# Altium integrated library AD Microcontroller ARM.IntLib: 47 symbols (part 2 of 3)
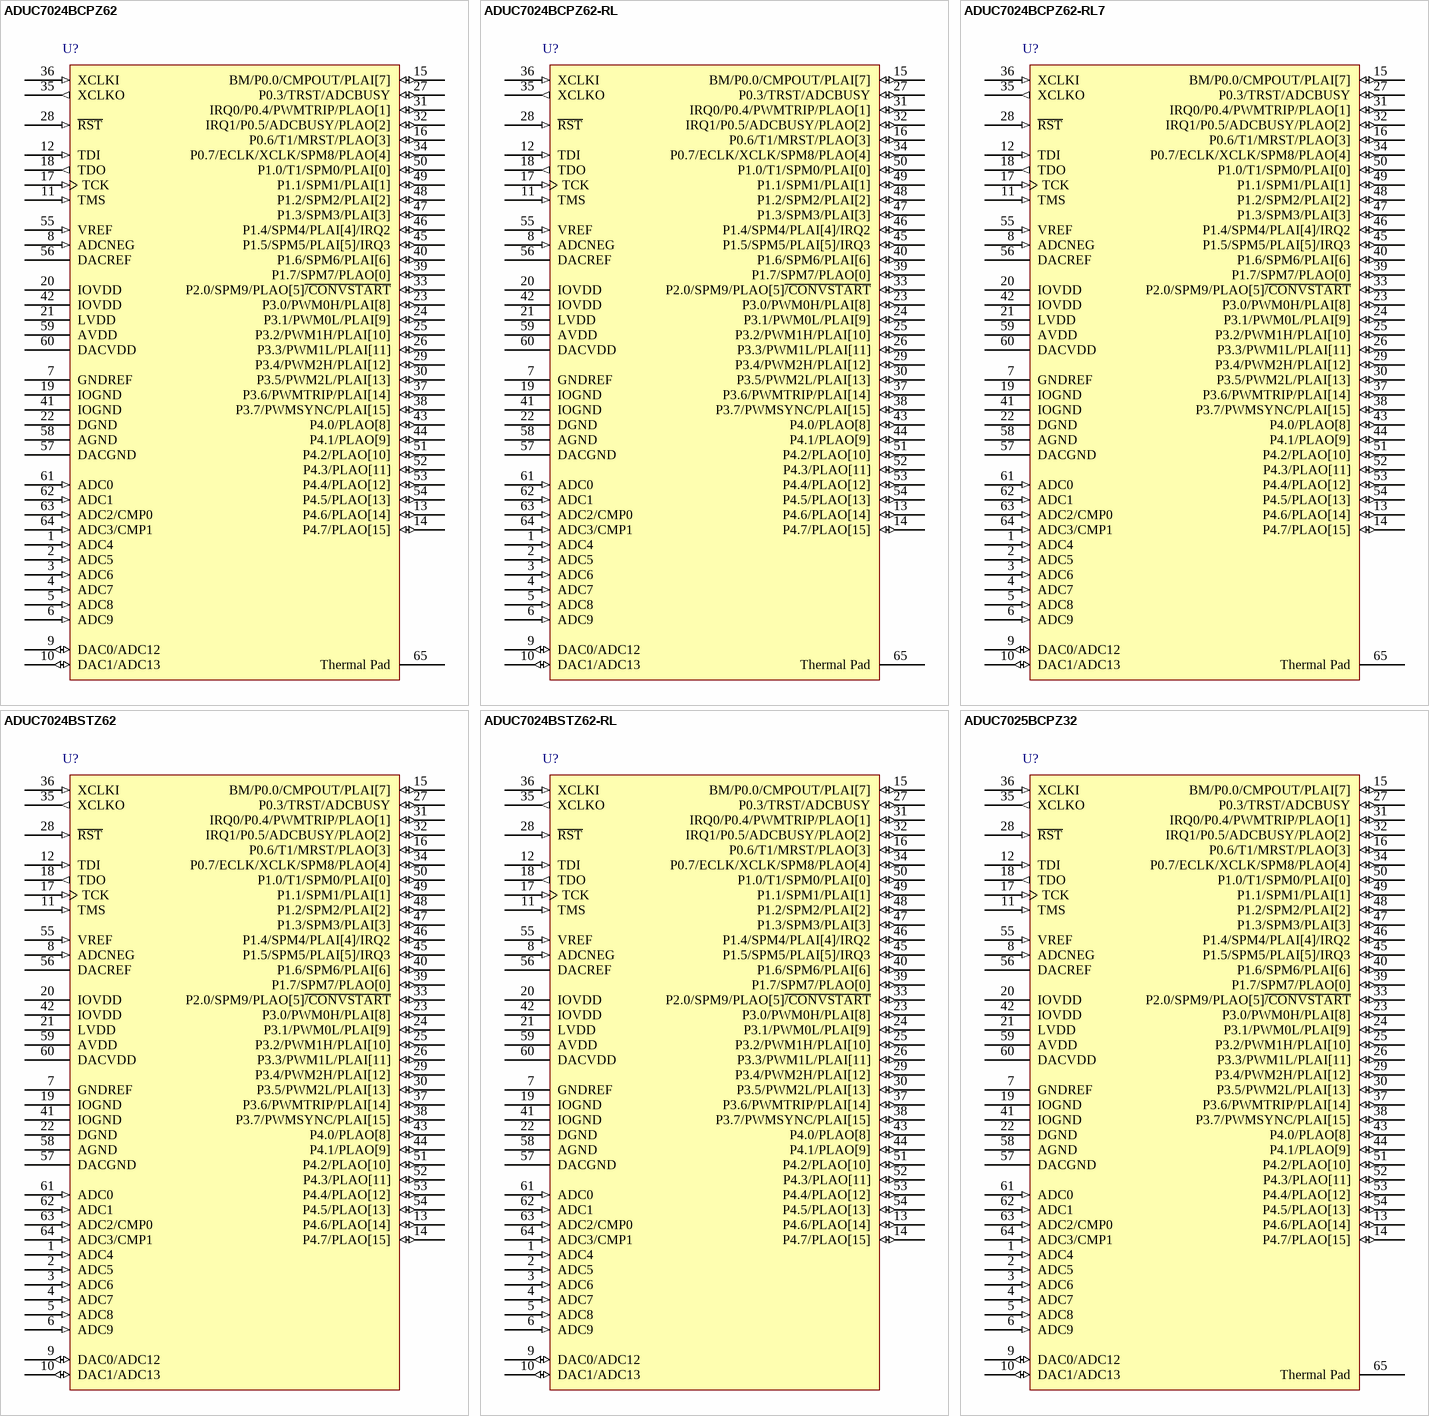
[diagram p8: symbols ADUC7024BCPZ62 to ADUC7025BCPZ32]

## ADUC7024BCPZ62-RL
designator U?
12-Bit Data Acquisition SOC, 40 MIPS ARM7 Flash MCU, 10 Channel ADC, 2 Channel DAC, 30 I/Os, 64-Pin LFCSP_VQ, Pb-Free; Published: 30-Mar-2007; DatasheetVersion: RevA, Jan-2006; PackageVersion: Apr-2004; PackageReference: CP-64-1; Publisher: Altium Limited; PackageDescription: 64-Pin Lead Frame Chip Scale Package [LFCSP] Very Thin Quad; Code_JEDEC: MO-220-VMMD; ComponentLink1Description: Manufacturer Link; ComponentLink1URL: http://www.analog.com/en/prod/0,,762_0_ADUC7024%2C00.html; ComponentLink2Description: Datasheet; ComponentLink2URL: http://www.analog.com/UploadedFiles/Data_Sheets/ADUC7019_7020_7021_7022_7024_7025_7026_7027.pdf; ComponentLink3Description: Packaging Specification; ComponentLink3URL: http://www.analog.com/UploadedFiles/Packages/40887351787287CP_64_1.pdf
footprint CP-64-1_N (QFN, 64-Leads, Body 9x9mm, Pitch 0.5mm, IPC Medium Density)
footprint CP-64-1_L (QFN, 64-Leads, Body 9x9mm, Pitch 0.5mm, IPC High Density)
footprint CP-64-1_M (QFN, 64-Leads, Body 9x9mm, Pitch 0.5mm, IPC Low Density)
pins: 1 ADC4 (in), 2 ADC5 (in), 3 ADC6 (in), 4 ADC7 (in), 5 ADC8 (in), 6 ADC9 (in), 7 GNDREF (power), 8 ADCNEG (in), 9 DAC0/ADC12 (io), 10 DAC1/ADC13 (io), 11 TMS (in), 12 TDI (in), 13 P4.6/PLAO[14] (io), 14 P4.7/PLAO[15] (io), 15 BM/P0.0/CMPOUT/PLAI[7] (io), 16 P0.6/T1/MRST/PLAO[3] (io), 17 TCK (in), 18 TDO (out), 19 IOGND (power), 20 IOVDD (power), 21 LVDD (power), 22 DGND (power), 23 P3.0/PWM0H/PLAI[8] (io), 24 P3.1/PWM0L/PLAI[9] (io), 25 P3.2/PWM1H/PLAI[10] (io), 26 P3.3/PWM1L/PLAI[11] (io), 27 P0.3/TRST/ADCBUSY (io), 28 ~{RST} (in), 29 P3.4/PWM2H/PLAI[12] (io), 30 P3.5/PWM2L/PLAI[13] (io), 31 IRQ0/P0.4/PWMTRIP/PLAO[1] (io), 32 IRQ1/P0.5/ADCBUSY/PLAO[2] (io), 33 P2.0/SPM9/PLAO[5]~{/CONVSTART} (io), 34 P0.7/ECLK/XCLK/SPM8/PLAO[4] (io), 35 XCLKO (out), 36 XCLKI (in), 37 P3.6/PWMTRIP/PLAI[14] (io), 38 P3.7/PWMSYNC/PLAI[15] (io), 39 P1.7/SPM7/PLAO[0] (io), 40 P1.6/SPM6/PLAI[6] (io), 41 IOGND (power), 42 IOVDD (power), 43 P4.0/PLAO[8] (io), 44 P4.1/PLAO[9] (io), 45 P1.5/SPM5/PLAI[5]/IRQ3 (io), 46 P1.4/SPM4/PLAI[4]/IRQ2 (io), 47 P1.3/SPM3/PLAI[3] (io), 48 P1.2/SPM2/PLAI[2] (io), 49 P1.1/SPM1/PLAI[1] (io), 50 P1.0/T1/SPM0/PLAI[0] (io), 51 P4.2/PLAO[10] (io), 52 P4.3/PLAO[11] (io), 53 P4.4/PLAO[12] (io), 54 P4.5/PLAO[13] (io), 55 VREF (in), 56 DACREF (power), 57 DACGND (power), 58 AGND (power), 59 AVDD (power), 60 DACVDD (power), 61 ADC0 (in), 62 ADC1 (in), 63 ADC2/CMP0 (in), 64 ADC3/CMP1 (in), 65 Thermal Pad

## ADUC7024BCPZ62-RL7
designator U?
12-Bit Data Acquisition SOC, 40 MIPS ARM7 Flash MCU, 10 Channel ADC, 2 Channel DAC, 30 I/Os, 64-Pin LFCSP_VQ, Pb-Free; Published: 30-Mar-2007; DatasheetVersion: RevA, Jan-2006; PackageVersion: Apr-2004; PackageReference: CP-64-1; Publisher: Altium Limited; PackageDescription: 64-Pin Lead Frame Chip Scale Package [LFCSP] Very Thin Quad; Code_JEDEC: MO-220-VMMD; ComponentLink1Description: Manufacturer Link; ComponentLink1URL: http://www.analog.com/en/prod/0,,762_0_ADUC7024%2C00.html; ComponentLink2Description: Datasheet; ComponentLink2URL: http://www.analog.com/UploadedFiles/Data_Sheets/ADUC7019_7020_7021_7022_7024_7025_7026_7027.pdf; ComponentLink3Description: Packaging Specification; ComponentLink3URL: http://www.analog.com/UploadedFiles/Packages/40887351787287CP_64_1.pdf
footprint CP-64-1_N (QFN, 64-Leads, Body 9x9mm, Pitch 0.5mm, IPC Medium Density)
footprint CP-64-1_L (QFN, 64-Leads, Body 9x9mm, Pitch 0.5mm, IPC High Density)
footprint CP-64-1_M (QFN, 64-Leads, Body 9x9mm, Pitch 0.5mm, IPC Low Density)
pins: 1 ADC4 (in), 2 ADC5 (in), 3 ADC6 (in), 4 ADC7 (in), 5 ADC8 (in), 6 ADC9 (in), 7 GNDREF (power), 8 ADCNEG (in), 9 DAC0/ADC12 (io), 10 DAC1/ADC13 (io), 11 TMS (in), 12 TDI (in), 13 P4.6/PLAO[14] (io), 14 P4.7/PLAO[15] (io), 15 BM/P0.0/CMPOUT/PLAI[7] (io), 16 P0.6/T1/MRST/PLAO[3] (io), 17 TCK (in), 18 TDO (out), 19 IOGND (power), 20 IOVDD (power), 21 LVDD (power), 22 DGND (power), 23 P3.0/PWM0H/PLAI[8] (io), 24 P3.1/PWM0L/PLAI[9] (io), 25 P3.2/PWM1H/PLAI[10] (io), 26 P3.3/PWM1L/PLAI[11] (io), 27 P0.3/TRST/ADCBUSY (io), 28 ~{RST} (in), 29 P3.4/PWM2H/PLAI[12] (io), 30 P3.5/PWM2L/PLAI[13] (io), 31 IRQ0/P0.4/PWMTRIP/PLAO[1] (io), 32 IRQ1/P0.5/ADCBUSY/PLAO[2] (io), 33 P2.0/SPM9/PLAO[5]~{/CONVSTART} (io), 34 P0.7/ECLK/XCLK/SPM8/PLAO[4] (io), 35 XCLKO (out), 36 XCLKI (in), 37 P3.6/PWMTRIP/PLAI[14] (io), 38 P3.7/PWMSYNC/PLAI[15] (io), 39 P1.7/SPM7/PLAO[0] (io), 40 P1.6/SPM6/PLAI[6] (io), 41 IOGND (power), 42 IOVDD (power), 43 P4.0/PLAO[8] (io), 44 P4.1/PLAO[9] (io), 45 P1.5/SPM5/PLAI[5]/IRQ3 (io), 46 P1.4/SPM4/PLAI[4]/IRQ2 (io), 47 P1.3/SPM3/PLAI[3] (io), 48 P1.2/SPM2/PLAI[2] (io), 49 P1.1/SPM1/PLAI[1] (io), 50 P1.0/T1/SPM0/PLAI[0] (io), 51 P4.2/PLAO[10] (io), 52 P4.3/PLAO[11] (io), 53 P4.4/PLAO[12] (io), 54 P4.5/PLAO[13] (io), 55 VREF (in), 56 DACREF (power), 57 DACGND (power), 58 AGND (power), 59 AVDD (power), 60 DACVDD (power), 61 ADC0 (in), 62 ADC1 (in), 63 ADC2/CMP0 (in), 64 ADC3/CMP1 (in), 65 Thermal Pad

## ADUC7024BSTZ62
designator U?
12-Bit Data Acquisition SOC, 40 MIPS ARM7 Flash MCU, 10 Channel ADC, 2 Channel DAC, 30 I/Os, 64-Pin LQFP, Pb-Free; Published: 30-Mar-2007; DatasheetVersion: RevA, Jan-2006; PackageVersion: May-2006; PackageReference: ST-64-2; Publisher: Altium Limited; PackageDescription: 64-Pin Low Profile Quad Flat Pack [LQFP]; Code_JEDEC: MS-026-BCD; ComponentLink1Description: Manufacturer Link; ComponentLink1URL: http://www.analog.com/en/prod/0,,762_0_ADUC7024%2C00.html; ComponentLink2Description: Datasheet; ComponentLink2URL: http://www.analog.com/UploadedFiles/Data_Sheets/ADUC7019_7020_7021_7022_7024_7025_7026_7027.pdf; ComponentLink3Description: Packaging Specification; ComponentLink3URL: http://www.analog.com/UploadedFiles/Packages/120493418ST_64_2.pdf
footprint ST-64-2_N (Thin QFP, 64-Leads, Body 10x10mm, Pitch 0.5mm, IPC Medium Density)
footprint ST-64-2_L (Thin QFP, 64-Leads, Body 10x10mm, Pitch 0.5mm, IPC High Density)
footprint ST-64-2_M (Thin QFP, 64-Leads, Body 10x10mm, Pitch 0.5mm, IPC Low Density)
3D model ADUC7024-ST-64-2 (64-Pin Low Profile Quad Flat Pack [LQFP])
pins: 1 ADC4 (in), 2 ADC5 (in), 3 ADC6 (in), 4 ADC7 (in), 5 ADC8 (in), 6 ADC9 (in), 7 GNDREF (power), 8 ADCNEG (in), 9 DAC0/ADC12 (io), 10 DAC1/ADC13 (io), 11 TMS (in), 12 TDI (in), 13 P4.6/PLAO[14] (io), 14 P4.7/PLAO[15] (io), 15 BM/P0.0/CMPOUT/PLAI[7] (io), 16 P0.6/T1/MRST/PLAO[3] (io), 17 TCK (in), 18 TDO (out), 19 IOGND (power), 20 IOVDD (power), 21 LVDD (power), 22 DGND (power), 23 P3.0/PWM0H/PLAI[8] (io), 24 P3.1/PWM0L/PLAI[9] (io), 25 P3.2/PWM1H/PLAI[10] (io), 26 P3.3/PWM1L/PLAI[11] (io), 27 P0.3/TRST/ADCBUSY (io), 28 ~{RST} (in), 29 P3.4/PWM2H/PLAI[12] (io), 30 P3.5/PWM2L/PLAI[13] (io), 31 IRQ0/P0.4/PWMTRIP/PLAO[1] (io), 32 IRQ1/P0.5/ADCBUSY/PLAO[2] (io), 33 P2.0/SPM9/PLAO[5]~{/CONVSTART} (io), 34 P0.7/ECLK/XCLK/SPM8/PLAO[4] (io), 35 XCLKO (out), 36 XCLKI (in), 37 P3.6/PWMTRIP/PLAI[14] (io), 38 P3.7/PWMSYNC/PLAI[15] (io), 39 P1.7/SPM7/PLAO[0] (io), 40 P1.6/SPM6/PLAI[6] (io), 41 IOGND (power), 42 IOVDD (power), 43 P4.0/PLAO[8] (io), 44 P4.1/PLAO[9] (io), 45 P1.5/SPM5/PLAI[5]/IRQ3 (io), 46 P1.4/SPM4/PLAI[4]/IRQ2 (io), 47 P1.3/SPM3/PLAI[3] (io), 48 P1.2/SPM2/PLAI[2] (io), 49 P1.1/SPM1/PLAI[1] (io), 50 P1.0/T1/SPM0/PLAI[0] (io), 51 P4.2/PLAO[10] (io), 52 P4.3/PLAO[11] (io), 53 P4.4/PLAO[12] (io), 54 P4.5/PLAO[13] (io), 55 VREF (in), 56 DACREF (power), 57 DACGND (power), 58 AGND (power), 59 AVDD (power), 60 DACVDD (power), 61 ADC0 (in), 62 ADC1 (in), 63 ADC2/CMP0 (in), 64 ADC3/CMP1 (in)

## ADUC7024BSTZ62-RL
designator U?
12-Bit Data Acquisition SOC, 40 MIPS ARM7 Flash MCU, 10 Channel ADC, 2 Channel DAC, 30 I/Os, 64-Pin LQFP, Pb-Free; Published: 30-Mar-2007; DatasheetVersion: RevA, Jan-2006; PackageVersion: May-2006; PackageReference: ST-64-2; Publisher: Altium Limited; PackageDescription: 64-Pin Low Profile Quad Flat Pack [LQFP]; Code_JEDEC: MS-026-BCD; ComponentLink1Description: Manufacturer Link; ComponentLink1URL: http://www.analog.com/en/prod/0,,762_0_ADUC7024%2C00.html; ComponentLink2Description: Datasheet; ComponentLink2URL: http://www.analog.com/UploadedFiles/Data_Sheets/ADUC7019_7020_7021_7022_7024_7025_7026_7027.pdf; ComponentLink3Description: Packaging Specification; ComponentLink3URL: http://www.analog.com/UploadedFiles/Packages/120493418ST_64_2.pdf
footprint ST-64-2_N (Thin QFP, 64-Leads, Body 10x10mm, Pitch 0.5mm, IPC Medium Density)
footprint ST-64-2_L (Thin QFP, 64-Leads, Body 10x10mm, Pitch 0.5mm, IPC High Density)
footprint ST-64-2_M (Thin QFP, 64-Leads, Body 10x10mm, Pitch 0.5mm, IPC Low Density)
3D model ADUC7024-ST-64-2 (64-Pin Low Profile Quad Flat Pack [LQFP])
pins: 1 ADC4 (in), 2 ADC5 (in), 3 ADC6 (in), 4 ADC7 (in), 5 ADC8 (in), 6 ADC9 (in), 7 GNDREF (power), 8 ADCNEG (in), 9 DAC0/ADC12 (io), 10 DAC1/ADC13 (io), 11 TMS (in), 12 TDI (in), 13 P4.6/PLAO[14] (io), 14 P4.7/PLAO[15] (io), 15 BM/P0.0/CMPOUT/PLAI[7] (io), 16 P0.6/T1/MRST/PLAO[3] (io), 17 TCK (in), 18 TDO (out), 19 IOGND (power), 20 IOVDD (power), 21 LVDD (power), 22 DGND (power), 23 P3.0/PWM0H/PLAI[8] (io), 24 P3.1/PWM0L/PLAI[9] (io), 25 P3.2/PWM1H/PLAI[10] (io), 26 P3.3/PWM1L/PLAI[11] (io), 27 P0.3/TRST/ADCBUSY (io), 28 ~{RST} (in), 29 P3.4/PWM2H/PLAI[12] (io), 30 P3.5/PWM2L/PLAI[13] (io), 31 IRQ0/P0.4/PWMTRIP/PLAO[1] (io), 32 IRQ1/P0.5/ADCBUSY/PLAO[2] (io), 33 P2.0/SPM9/PLAO[5]~{/CONVSTART} (io), 34 P0.7/ECLK/XCLK/SPM8/PLAO[4] (io), 35 XCLKO (out), 36 XCLKI (in), 37 P3.6/PWMTRIP/PLAI[14] (io), 38 P3.7/PWMSYNC/PLAI[15] (io), 39 P1.7/SPM7/PLAO[0] (io), 40 P1.6/SPM6/PLAI[6] (io), 41 IOGND (power), 42 IOVDD (power), 43 P4.0/PLAO[8] (io), 44 P4.1/PLAO[9] (io), 45 P1.5/SPM5/PLAI[5]/IRQ3 (io), 46 P1.4/SPM4/PLAI[4]/IRQ2 (io), 47 P1.3/SPM3/PLAI[3] (io), 48 P1.2/SPM2/PLAI[2] (io), 49 P1.1/SPM1/PLAI[1] (io), 50 P1.0/T1/SPM0/PLAI[0] (io), 51 P4.2/PLAO[10] (io), 52 P4.3/PLAO[11] (io), 53 P4.4/PLAO[12] (io), 54 P4.5/PLAO[13] (io), 55 VREF (in), 56 DACREF (power), 57 DACGND (power), 58 AGND (power), 59 AVDD (power), 60 DACVDD (power), 61 ADC0 (in), 62 ADC1 (in), 63 ADC2/CMP0 (in), 64 ADC3/CMP1 (in)

## ADUC7025BCPZ32
designator U?
12-Bit Data Acquisition SOC, 40 MIPS ARM7 Flash MCU, 12 Channel ADC, 30 I/Os, 64-Pin LFCSP_VQ, Pb-Free; Published: 30-Mar-2007; DatasheetVersion: RevA, Jan-2006; PackageVersion: Apr-2004; PackageReference: CP-64-1; Publisher: Altium Limited; PackageDescription: 64-Pin Lead Frame Chip Scale Package [LFCSP] Very Thin Quad; Code_JEDEC: MO-220-VMMD; ComponentLink1Description: Manufacturer Link; ComponentLink1URL: http://www.analog.com/en/prod/0,,762_0_ADUC7025%2C00.html; ComponentLink2Description: Datasheet; ComponentLink2URL: http://www.analog.com/UploadedFiles/Data_Sheets/ADUC7019_7020_7021_7022_7024_7025_7026_7027.pdf; ComponentLink3Description: Packaging Specification; ComponentLink3URL: http://www.analog.com/UploadedFiles/Packages/40887351787287CP_64_1.pdf
footprint CP-64-1_N (QFN, 64-Leads, Body 9x9mm, Pitch 0.5mm, IPC Medium Density)
footprint CP-64-1_L (QFN, 64-Leads, Body 9x9mm, Pitch 0.5mm, IPC High Density)
footprint CP-64-1_M (QFN, 64-Leads, Body 9x9mm, Pitch 0.5mm, IPC Low Density)
pins: 1 ADC4 (in), 2 ADC5 (in), 3 ADC6 (in), 4 ADC7 (in), 5 ADC8 (in), 6 ADC9 (in), 7 GNDREF (power), 8 ADCNEG (in), 9 DAC0/ADC12 (io), 10 DAC1/ADC13 (io), 11 TMS (in), 12 TDI (in), 13 P4.6/PLAO[14] (io), 14 P4.7/PLAO[15] (io), 15 BM/P0.0/CMPOUT/PLAI[7] (io), 16 P0.6/T1/MRST/PLAO[3] (io), 17 TCK (in), 18 TDO (out), 19 IOGND (power), 20 IOVDD (power), 21 LVDD (power), 22 DGND (power), 23 P3.0/PWM0H/PLAI[8] (io), 24 P3.1/PWM0L/PLAI[9] (io), 25 P3.2/PWM1H/PLAI[10] (io), 26 P3.3/PWM1L/PLAI[11] (io), 27 P0.3/TRST/ADCBUSY (io), 28 ~{RST} (in), 29 P3.4/PWM2H/PLAI[12] (io), 30 P3.5/PWM2L/PLAI[13] (io), 31 IRQ0/P0.4/PWMTRIP/PLAO[1] (io), 32 IRQ1/P0.5/ADCBUSY/PLAO[2] (io), 33 P2.0/SPM9/PLAO[5]~{/CONVSTART} (io), 34 P0.7/ECLK/XCLK/SPM8/PLAO[4] (io), 35 XCLKO (out), 36 XCLKI (in), 37 P3.6/PWMTRIP/PLAI[14] (io), 38 P3.7/PWMSYNC/PLAI[15] (io), 39 P1.7/SPM7/PLAO[0] (io), 40 P1.6/SPM6/PLAI[6] (io), 41 IOGND (power), 42 IOVDD (power), 43 P4.0/PLAO[8] (io), 44 P4.1/PLAO[9] (io), 45 P1.5/SPM5/PLAI[5]/IRQ3 (io), 46 P1.4/SPM4/PLAI[4]/IRQ2 (io), 47 P1.3/SPM3/PLAI[3] (io), 48 P1.2/SPM2/PLAI[2] (io), 49 P1.1/SPM1/PLAI[1] (io), 50 P1.0/T1/SPM0/PLAI[0] (io), 51 P4.2/PLAO[10] (io), 52 P4.3/PLAO[11] (io), 53 P4.4/PLAO[12] (io), 54 P4.5/PLAO[13] (io), 55 VREF (in), 56 DACREF (power), 57 DACGND (power), 58 AGND (power), 59 AVDD (power), 60 DACVDD (power), 61 ADC0 (in), 62 ADC1 (in), 63 ADC2/CMP0 (in), 64 ADC3/CMP1 (in), 65 Thermal Pad

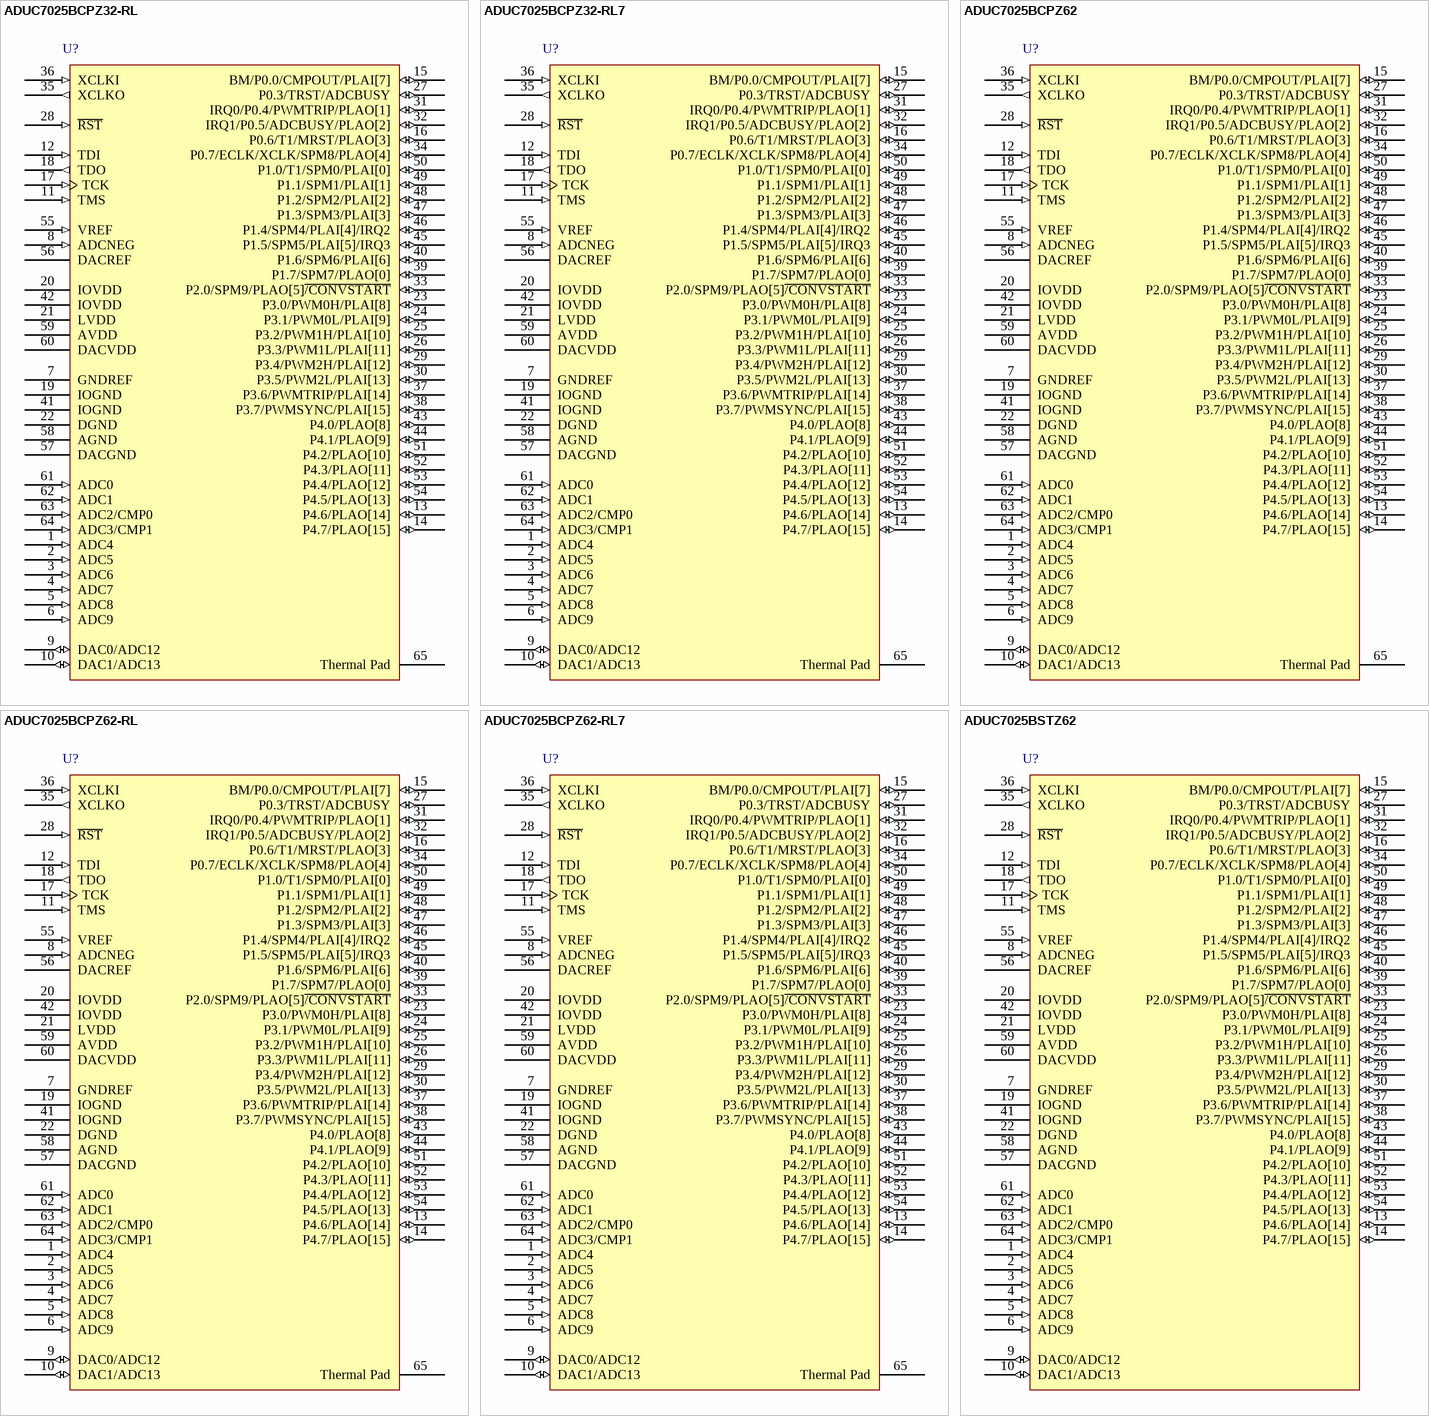
[diagram p4: symbols ADUC7025BCPZ32-RL to ADUC7025BSTZ62]

## ADUC7025BCPZ32-RL
designator U?
12-Bit Data Acquisition SOC, 40 MIPS ARM7 Flash MCU, 12 Channel ADC, 30 I/Os, 64-Pin LFCSP_VQ, Pb-Free; Published: 30-Mar-2007; DatasheetVersion: RevA, Jan-2006; PackageVersion: Apr-2004; PackageReference: CP-64-1; Publisher: Altium Limited; PackageDescription: 64-Pin Lead Frame Chip Scale Package [LFCSP] Very Thin Quad; Code_JEDEC: MO-220-VMMD; ComponentLink1Description: Manufacturer Link; ComponentLink1URL: http://www.analog.com/en/prod/0,,762_0_ADUC7025%2C00.html; ComponentLink2Description: Datasheet; ComponentLink2URL: http://www.analog.com/UploadedFiles/Data_Sheets/ADUC7019_7020_7021_7022_7024_7025_7026_7027.pdf; ComponentLink3Description: Packaging Specification; ComponentLink3URL: http://www.analog.com/UploadedFiles/Packages/40887351787287CP_64_1.pdf
footprint CP-64-1_N (QFN, 64-Leads, Body 9x9mm, Pitch 0.5mm, IPC Medium Density)
footprint CP-64-1_L (QFN, 64-Leads, Body 9x9mm, Pitch 0.5mm, IPC High Density)
footprint CP-64-1_M (QFN, 64-Leads, Body 9x9mm, Pitch 0.5mm, IPC Low Density)
pins: 1 ADC4 (in), 2 ADC5 (in), 3 ADC6 (in), 4 ADC7 (in), 5 ADC8 (in), 6 ADC9 (in), 7 GNDREF (power), 8 ADCNEG (in), 9 DAC0/ADC12 (io), 10 DAC1/ADC13 (io), 11 TMS (in), 12 TDI (in), 13 P4.6/PLAO[14] (io), 14 P4.7/PLAO[15] (io), 15 BM/P0.0/CMPOUT/PLAI[7] (io), 16 P0.6/T1/MRST/PLAO[3] (io), 17 TCK (in), 18 TDO (out), 19 IOGND (power), 20 IOVDD (power), 21 LVDD (power), 22 DGND (power), 23 P3.0/PWM0H/PLAI[8] (io), 24 P3.1/PWM0L/PLAI[9] (io), 25 P3.2/PWM1H/PLAI[10] (io), 26 P3.3/PWM1L/PLAI[11] (io), 27 P0.3/TRST/ADCBUSY (io), 28 ~{RST} (in), 29 P3.4/PWM2H/PLAI[12] (io), 30 P3.5/PWM2L/PLAI[13] (io), 31 IRQ0/P0.4/PWMTRIP/PLAO[1] (io), 32 IRQ1/P0.5/ADCBUSY/PLAO[2] (io), 33 P2.0/SPM9/PLAO[5]~{/CONVSTART} (io), 34 P0.7/ECLK/XCLK/SPM8/PLAO[4] (io), 35 XCLKO (out), 36 XCLKI (in), 37 P3.6/PWMTRIP/PLAI[14] (io), 38 P3.7/PWMSYNC/PLAI[15] (io), 39 P1.7/SPM7/PLAO[0] (io), 40 P1.6/SPM6/PLAI[6] (io), 41 IOGND (power), 42 IOVDD (power), 43 P4.0/PLAO[8] (io), 44 P4.1/PLAO[9] (io), 45 P1.5/SPM5/PLAI[5]/IRQ3 (io), 46 P1.4/SPM4/PLAI[4]/IRQ2 (io), 47 P1.3/SPM3/PLAI[3] (io), 48 P1.2/SPM2/PLAI[2] (io), 49 P1.1/SPM1/PLAI[1] (io), 50 P1.0/T1/SPM0/PLAI[0] (io), 51 P4.2/PLAO[10] (io), 52 P4.3/PLAO[11] (io), 53 P4.4/PLAO[12] (io), 54 P4.5/PLAO[13] (io), 55 VREF (in), 56 DACREF (power), 57 DACGND (power), 58 AGND (power), 59 AVDD (power), 60 DACVDD (power), 61 ADC0 (in), 62 ADC1 (in), 63 ADC2/CMP0 (in), 64 ADC3/CMP1 (in), 65 Thermal Pad

## ADUC7025BCPZ32-RL7
designator U?
12-Bit Data Acquisition SOC, 40 MIPS ARM7 Flash MCU, 12 Channel ADC, 30 I/Os, 64-Pin LFCSP_VQ, Pb-Free; Published: 30-Mar-2007; DatasheetVersion: RevA, Jan-2006; PackageVersion: Apr-2004; PackageReference: CP-64-1; Publisher: Altium Limited; PackageDescription: 64-Pin Lead Frame Chip Scale Package [LFCSP] Very Thin Quad; Code_JEDEC: MO-220-VMMD; ComponentLink1Description: Manufacturer Link; ComponentLink1URL: http://www.analog.com/en/prod/0,,762_0_ADUC7025%2C00.html; ComponentLink2Description: Datasheet; ComponentLink2URL: http://www.analog.com/UploadedFiles/Data_Sheets/ADUC7019_7020_7021_7022_7024_7025_7026_7027.pdf; ComponentLink3Description: Packaging Specification; ComponentLink3URL: http://www.analog.com/UploadedFiles/Packages/40887351787287CP_64_1.pdf
footprint CP-64-1_N (QFN, 64-Leads, Body 9x9mm, Pitch 0.5mm, IPC Medium Density)
footprint CP-64-1_L (QFN, 64-Leads, Body 9x9mm, Pitch 0.5mm, IPC High Density)
footprint CP-64-1_M (QFN, 64-Leads, Body 9x9mm, Pitch 0.5mm, IPC Low Density)
pins: 1 ADC4 (in), 2 ADC5 (in), 3 ADC6 (in), 4 ADC7 (in), 5 ADC8 (in), 6 ADC9 (in), 7 GNDREF (power), 8 ADCNEG (in), 9 DAC0/ADC12 (io), 10 DAC1/ADC13 (io), 11 TMS (in), 12 TDI (in), 13 P4.6/PLAO[14] (io), 14 P4.7/PLAO[15] (io), 15 BM/P0.0/CMPOUT/PLAI[7] (io), 16 P0.6/T1/MRST/PLAO[3] (io), 17 TCK (in), 18 TDO (out), 19 IOGND (power), 20 IOVDD (power), 21 LVDD (power), 22 DGND (power), 23 P3.0/PWM0H/PLAI[8] (io), 24 P3.1/PWM0L/PLAI[9] (io), 25 P3.2/PWM1H/PLAI[10] (io), 26 P3.3/PWM1L/PLAI[11] (io), 27 P0.3/TRST/ADCBUSY (io), 28 ~{RST} (in), 29 P3.4/PWM2H/PLAI[12] (io), 30 P3.5/PWM2L/PLAI[13] (io), 31 IRQ0/P0.4/PWMTRIP/PLAO[1] (io), 32 IRQ1/P0.5/ADCBUSY/PLAO[2] (io), 33 P2.0/SPM9/PLAO[5]~{/CONVSTART} (io), 34 P0.7/ECLK/XCLK/SPM8/PLAO[4] (io), 35 XCLKO (out), 36 XCLKI (in), 37 P3.6/PWMTRIP/PLAI[14] (io), 38 P3.7/PWMSYNC/PLAI[15] (io), 39 P1.7/SPM7/PLAO[0] (io), 40 P1.6/SPM6/PLAI[6] (io), 41 IOGND (power), 42 IOVDD (power), 43 P4.0/PLAO[8] (io), 44 P4.1/PLAO[9] (io), 45 P1.5/SPM5/PLAI[5]/IRQ3 (io), 46 P1.4/SPM4/PLAI[4]/IRQ2 (io), 47 P1.3/SPM3/PLAI[3] (io), 48 P1.2/SPM2/PLAI[2] (io), 49 P1.1/SPM1/PLAI[1] (io), 50 P1.0/T1/SPM0/PLAI[0] (io), 51 P4.2/PLAO[10] (io), 52 P4.3/PLAO[11] (io), 53 P4.4/PLAO[12] (io), 54 P4.5/PLAO[13] (io), 55 VREF (in), 56 DACREF (power), 57 DACGND (power), 58 AGND (power), 59 AVDD (power), 60 DACVDD (power), 61 ADC0 (in), 62 ADC1 (in), 63 ADC2/CMP0 (in), 64 ADC3/CMP1 (in), 65 Thermal Pad

## ADUC7025BCPZ62
designator U?
12-Bit Data Acquisition SOC, 40 MIPS ARM7 Flash MCU, 12 Channel ADC, 30 I/Os, 64-Pin LFCSP_VQ, Pb-Free; Published: 30-Mar-2007; DatasheetVersion: RevA, Jan-2006; PackageVersion: Apr-2004; PackageReference: CP-64-1; Publisher: Altium Limited; PackageDescription: 64-Pin Lead Frame Chip Scale Package [LFCSP] Very Thin Quad; Code_JEDEC: MO-220-VMMD; ComponentLink1Description: Manufacturer Link; ComponentLink1URL: http://www.analog.com/en/prod/0,,762_0_ADUC7025%2C00.html; ComponentLink2Description: Datasheet; ComponentLink2URL: http://www.analog.com/UploadedFiles/Data_Sheets/ADUC7019_7020_7021_7022_7024_7025_7026_7027.pdf; ComponentLink3Description: Packaging Specification; ComponentLink3URL: http://www.analog.com/UploadedFiles/Packages/40887351787287CP_64_1.pdf
footprint CP-64-1_N (QFN, 64-Leads, Body 9x9mm, Pitch 0.5mm, IPC Medium Density)
footprint CP-64-1_L (QFN, 64-Leads, Body 9x9mm, Pitch 0.5mm, IPC High Density)
footprint CP-64-1_M (QFN, 64-Leads, Body 9x9mm, Pitch 0.5mm, IPC Low Density)
pins: 1 ADC4 (in), 2 ADC5 (in), 3 ADC6 (in), 4 ADC7 (in), 5 ADC8 (in), 6 ADC9 (in), 7 GNDREF (power), 8 ADCNEG (in), 9 DAC0/ADC12 (io), 10 DAC1/ADC13 (io), 11 TMS (in), 12 TDI (in), 13 P4.6/PLAO[14] (io), 14 P4.7/PLAO[15] (io), 15 BM/P0.0/CMPOUT/PLAI[7] (io), 16 P0.6/T1/MRST/PLAO[3] (io), 17 TCK (in), 18 TDO (out), 19 IOGND (power), 20 IOVDD (power), 21 LVDD (power), 22 DGND (power), 23 P3.0/PWM0H/PLAI[8] (io), 24 P3.1/PWM0L/PLAI[9] (io), 25 P3.2/PWM1H/PLAI[10] (io), 26 P3.3/PWM1L/PLAI[11] (io), 27 P0.3/TRST/ADCBUSY (io), 28 ~{RST} (in), 29 P3.4/PWM2H/PLAI[12] (io), 30 P3.5/PWM2L/PLAI[13] (io), 31 IRQ0/P0.4/PWMTRIP/PLAO[1] (io), 32 IRQ1/P0.5/ADCBUSY/PLAO[2] (io), 33 P2.0/SPM9/PLAO[5]~{/CONVSTART} (io), 34 P0.7/ECLK/XCLK/SPM8/PLAO[4] (io), 35 XCLKO (out), 36 XCLKI (in), 37 P3.6/PWMTRIP/PLAI[14] (io), 38 P3.7/PWMSYNC/PLAI[15] (io), 39 P1.7/SPM7/PLAO[0] (io), 40 P1.6/SPM6/PLAI[6] (io), 41 IOGND (power), 42 IOVDD (power), 43 P4.0/PLAO[8] (io), 44 P4.1/PLAO[9] (io), 45 P1.5/SPM5/PLAI[5]/IRQ3 (io), 46 P1.4/SPM4/PLAI[4]/IRQ2 (io), 47 P1.3/SPM3/PLAI[3] (io), 48 P1.2/SPM2/PLAI[2] (io), 49 P1.1/SPM1/PLAI[1] (io), 50 P1.0/T1/SPM0/PLAI[0] (io), 51 P4.2/PLAO[10] (io), 52 P4.3/PLAO[11] (io), 53 P4.4/PLAO[12] (io), 54 P4.5/PLAO[13] (io), 55 VREF (in), 56 DACREF (power), 57 DACGND (power), 58 AGND (power), 59 AVDD (power), 60 DACVDD (power), 61 ADC0 (in), 62 ADC1 (in), 63 ADC2/CMP0 (in), 64 ADC3/CMP1 (in), 65 Thermal Pad

## ADUC7025BCPZ62-RL
designator U?
12-Bit Data Acquisition SOC, 40 MIPS ARM7 Flash MCU, 12 Channel ADC, 30 I/Os, 64-Pin LFCSP_VQ, Pb-Free; Published: 30-Mar-2007; DatasheetVersion: RevA, Jan-2006; PackageVersion: Apr-2004; PackageReference: CP-64-1; Publisher: Altium Limited; PackageDescription: 64-Pin Lead Frame Chip Scale Package [LFCSP] Very Thin Quad; Code_JEDEC: MO-220-VMMD; ComponentLink1Description: Manufacturer Link; ComponentLink1URL: http://www.analog.com/en/prod/0,,762_0_ADUC7025%2C00.html; ComponentLink2Description: Datasheet; ComponentLink2URL: http://www.analog.com/UploadedFiles/Data_Sheets/ADUC7019_7020_7021_7022_7024_7025_7026_7027.pdf; ComponentLink3Description: Packaging Specification; ComponentLink3URL: http://www.analog.com/UploadedFiles/Packages/40887351787287CP_64_1.pdf
footprint CP-64-1_N (QFN, 64-Leads, Body 9x9mm, Pitch 0.5mm, IPC Medium Density)
footprint CP-64-1_L (QFN, 64-Leads, Body 9x9mm, Pitch 0.5mm, IPC High Density)
footprint CP-64-1_M (QFN, 64-Leads, Body 9x9mm, Pitch 0.5mm, IPC Low Density)
pins: 1 ADC4 (in), 2 ADC5 (in), 3 ADC6 (in), 4 ADC7 (in), 5 ADC8 (in), 6 ADC9 (in), 7 GNDREF (power), 8 ADCNEG (in), 9 DAC0/ADC12 (io), 10 DAC1/ADC13 (io), 11 TMS (in), 12 TDI (in), 13 P4.6/PLAO[14] (io), 14 P4.7/PLAO[15] (io), 15 BM/P0.0/CMPOUT/PLAI[7] (io), 16 P0.6/T1/MRST/PLAO[3] (io), 17 TCK (in), 18 TDO (out), 19 IOGND (power), 20 IOVDD (power), 21 LVDD (power), 22 DGND (power), 23 P3.0/PWM0H/PLAI[8] (io), 24 P3.1/PWM0L/PLAI[9] (io), 25 P3.2/PWM1H/PLAI[10] (io), 26 P3.3/PWM1L/PLAI[11] (io), 27 P0.3/TRST/ADCBUSY (io), 28 ~{RST} (in), 29 P3.4/PWM2H/PLAI[12] (io), 30 P3.5/PWM2L/PLAI[13] (io), 31 IRQ0/P0.4/PWMTRIP/PLAO[1] (io), 32 IRQ1/P0.5/ADCBUSY/PLAO[2] (io), 33 P2.0/SPM9/PLAO[5]~{/CONVSTART} (io), 34 P0.7/ECLK/XCLK/SPM8/PLAO[4] (io), 35 XCLKO (out), 36 XCLKI (in), 37 P3.6/PWMTRIP/PLAI[14] (io), 38 P3.7/PWMSYNC/PLAI[15] (io), 39 P1.7/SPM7/PLAO[0] (io), 40 P1.6/SPM6/PLAI[6] (io), 41 IOGND (power), 42 IOVDD (power), 43 P4.0/PLAO[8] (io), 44 P4.1/PLAO[9] (io), 45 P1.5/SPM5/PLAI[5]/IRQ3 (io), 46 P1.4/SPM4/PLAI[4]/IRQ2 (io), 47 P1.3/SPM3/PLAI[3] (io), 48 P1.2/SPM2/PLAI[2] (io), 49 P1.1/SPM1/PLAI[1] (io), 50 P1.0/T1/SPM0/PLAI[0] (io), 51 P4.2/PLAO[10] (io), 52 P4.3/PLAO[11] (io), 53 P4.4/PLAO[12] (io), 54 P4.5/PLAO[13] (io), 55 VREF (in), 56 DACREF (power), 57 DACGND (power), 58 AGND (power), 59 AVDD (power), 60 DACVDD (power), 61 ADC0 (in), 62 ADC1 (in), 63 ADC2/CMP0 (in), 64 ADC3/CMP1 (in), 65 Thermal Pad

## ADUC7025BCPZ62-RL7
designator U?
12-Bit Data Acquisition SOC, 40 MIPS ARM7 Flash MCU, 12 Channel ADC, 30 I/Os, 64-Pin LFCSP_VQ, Pb-Free; Published: 30-Mar-2007; DatasheetVersion: RevA, Jan-2006; PackageVersion: Apr-2004; PackageReference: CP-64-1; Publisher: Altium Limited; PackageDescription: 64-Pin Lead Frame Chip Scale Package [LFCSP] Very Thin Quad; Code_JEDEC: MO-220-VMMD; ComponentLink1Description: Manufacturer Link; ComponentLink1URL: http://www.analog.com/en/prod/0,,762_0_ADUC7025%2C00.html; ComponentLink2Description: Datasheet; ComponentLink2URL: http://www.analog.com/UploadedFiles/Data_Sheets/ADUC7019_7020_7021_7022_7024_7025_7026_7027.pdf; ComponentLink3Description: Packaging Specification; ComponentLink3URL: http://www.analog.com/UploadedFiles/Packages/40887351787287CP_64_1.pdf
footprint CP-64-1_N (QFN, 64-Leads, Body 9x9mm, Pitch 0.5mm, IPC Medium Density)
footprint CP-64-1_L (QFN, 64-Leads, Body 9x9mm, Pitch 0.5mm, IPC High Density)
footprint CP-64-1_M (QFN, 64-Leads, Body 9x9mm, Pitch 0.5mm, IPC Low Density)
pins: 1 ADC4 (in), 2 ADC5 (in), 3 ADC6 (in), 4 ADC7 (in), 5 ADC8 (in), 6 ADC9 (in), 7 GNDREF (power), 8 ADCNEG (in), 9 DAC0/ADC12 (io), 10 DAC1/ADC13 (io), 11 TMS (in), 12 TDI (in), 13 P4.6/PLAO[14] (io), 14 P4.7/PLAO[15] (io), 15 BM/P0.0/CMPOUT/PLAI[7] (io), 16 P0.6/T1/MRST/PLAO[3] (io), 17 TCK (in), 18 TDO (out), 19 IOGND (power), 20 IOVDD (power), 21 LVDD (power), 22 DGND (power), 23 P3.0/PWM0H/PLAI[8] (io), 24 P3.1/PWM0L/PLAI[9] (io), 25 P3.2/PWM1H/PLAI[10] (io), 26 P3.3/PWM1L/PLAI[11] (io), 27 P0.3/TRST/ADCBUSY (io), 28 ~{RST} (in), 29 P3.4/PWM2H/PLAI[12] (io), 30 P3.5/PWM2L/PLAI[13] (io), 31 IRQ0/P0.4/PWMTRIP/PLAO[1] (io), 32 IRQ1/P0.5/ADCBUSY/PLAO[2] (io), 33 P2.0/SPM9/PLAO[5]~{/CONVSTART} (io), 34 P0.7/ECLK/XCLK/SPM8/PLAO[4] (io), 35 XCLKO (out), 36 XCLKI (in), 37 P3.6/PWMTRIP/PLAI[14] (io), 38 P3.7/PWMSYNC/PLAI[15] (io), 39 P1.7/SPM7/PLAO[0] (io), 40 P1.6/SPM6/PLAI[6] (io), 41 IOGND (power), 42 IOVDD (power), 43 P4.0/PLAO[8] (io), 44 P4.1/PLAO[9] (io), 45 P1.5/SPM5/PLAI[5]/IRQ3 (io), 46 P1.4/SPM4/PLAI[4]/IRQ2 (io), 47 P1.3/SPM3/PLAI[3] (io), 48 P1.2/SPM2/PLAI[2] (io), 49 P1.1/SPM1/PLAI[1] (io), 50 P1.0/T1/SPM0/PLAI[0] (io), 51 P4.2/PLAO[10] (io), 52 P4.3/PLAO[11] (io), 53 P4.4/PLAO[12] (io), 54 P4.5/PLAO[13] (io), 55 VREF (in), 56 DACREF (power), 57 DACGND (power), 58 AGND (power), 59 AVDD (power), 60 DACVDD (power), 61 ADC0 (in), 62 ADC1 (in), 63 ADC2/CMP0 (in), 64 ADC3/CMP1 (in), 65 Thermal Pad

## ADUC7025BSTZ62
designator U?
12-Bit Data Acquisition SOC, 40 MIPS ARM7 Flash MCU, 12 Channel ADC, 30 I/Os, 64-Pin LQFP, Pb-Free; Published: 30-Mar-2007; DatasheetVersion: RevA, Jan-2006; PackageVersion: May-2006; PackageReference: ST-64-2; Publisher: Altium Limited; PackageDescription: 64-Pin Low Profile Quad Flat Pack [LQFP]; Code_JEDEC: MS-026-BCD; ComponentLink1Description: Manufacturer Link; ComponentLink1URL: http://www.analog.com/en/prod/0,,762_0_ADUC7025%2C00.html; ComponentLink2Description: Datasheet; ComponentLink2URL: http://www.analog.com/UploadedFiles/Data_Sheets/ADUC7019_7020_7021_7022_7024_7025_7026_7027.pdf; ComponentLink3Description: Packaging Specification; ComponentLink3URL: http://www.analog.com/UploadedFiles/Packages/120493418ST_64_2.pdf
footprint ST-64-2_N (Thin QFP, 64-Leads, Body 10x10mm, Pitch 0.5mm, IPC Medium Density)
footprint ST-64-2_L (Thin QFP, 64-Leads, Body 10x10mm, Pitch 0.5mm, IPC High Density)
footprint ST-64-2_M (Thin QFP, 64-Leads, Body 10x10mm, Pitch 0.5mm, IPC Low Density)
3D model ADUC7025-ST-64-2 (64-Pin Low Profile Quad Flat Pack [LQFP])
pins: 1 ADC4 (in), 2 ADC5 (in), 3 ADC6 (in), 4 ADC7 (in), 5 ADC8 (in), 6 ADC9 (in), 7 GNDREF (power), 8 ADCNEG (in), 9 DAC0/ADC12 (io), 10 DAC1/ADC13 (io), 11 TMS (in), 12 TDI (in), 13 P4.6/PLAO[14] (io), 14 P4.7/PLAO[15] (io), 15 BM/P0.0/CMPOUT/PLAI[7] (io), 16 P0.6/T1/MRST/PLAO[3] (io), 17 TCK (in), 18 TDO (out), 19 IOGND (power), 20 IOVDD (power), 21 LVDD (power), 22 DGND (power), 23 P3.0/PWM0H/PLAI[8] (io), 24 P3.1/PWM0L/PLAI[9] (io), 25 P3.2/PWM1H/PLAI[10] (io), 26 P3.3/PWM1L/PLAI[11] (io), 27 P0.3/TRST/ADCBUSY (io), 28 ~{RST} (in), 29 P3.4/PWM2H/PLAI[12] (io), 30 P3.5/PWM2L/PLAI[13] (io), 31 IRQ0/P0.4/PWMTRIP/PLAO[1] (io), 32 IRQ1/P0.5/ADCBUSY/PLAO[2] (io), 33 P2.0/SPM9/PLAO[5]~{/CONVSTART} (io), 34 P0.7/ECLK/XCLK/SPM8/PLAO[4] (io), 35 XCLKO (out), 36 XCLKI (in), 37 P3.6/PWMTRIP/PLAI[14] (io), 38 P3.7/PWMSYNC/PLAI[15] (io), 39 P1.7/SPM7/PLAO[0] (io), 40 P1.6/SPM6/PLAI[6] (io), 41 IOGND (power), 42 IOVDD (power), 43 P4.0/PLAO[8] (io), 44 P4.1/PLAO[9] (io), 45 P1.5/SPM5/PLAI[5]/IRQ3 (io), 46 P1.4/SPM4/PLAI[4]/IRQ2 (io), 47 P1.3/SPM3/PLAI[3] (io), 48 P1.2/SPM2/PLAI[2] (io), 49 P1.1/SPM1/PLAI[1] (io), 50 P1.0/T1/SPM0/PLAI[0] (io), 51 P4.2/PLAO[10] (io), 52 P4.3/PLAO[11] (io), 53 P4.4/PLAO[12] (io), 54 P4.5/PLAO[13] (io), 55 VREF (in), 56 DACREF (power), 57 DACGND (power), 58 AGND (power), 59 AVDD (power), 60 DACVDD (power), 61 ADC0 (in), 62 ADC1 (in), 63 ADC2/CMP0 (in), 64 ADC3/CMP1 (in)

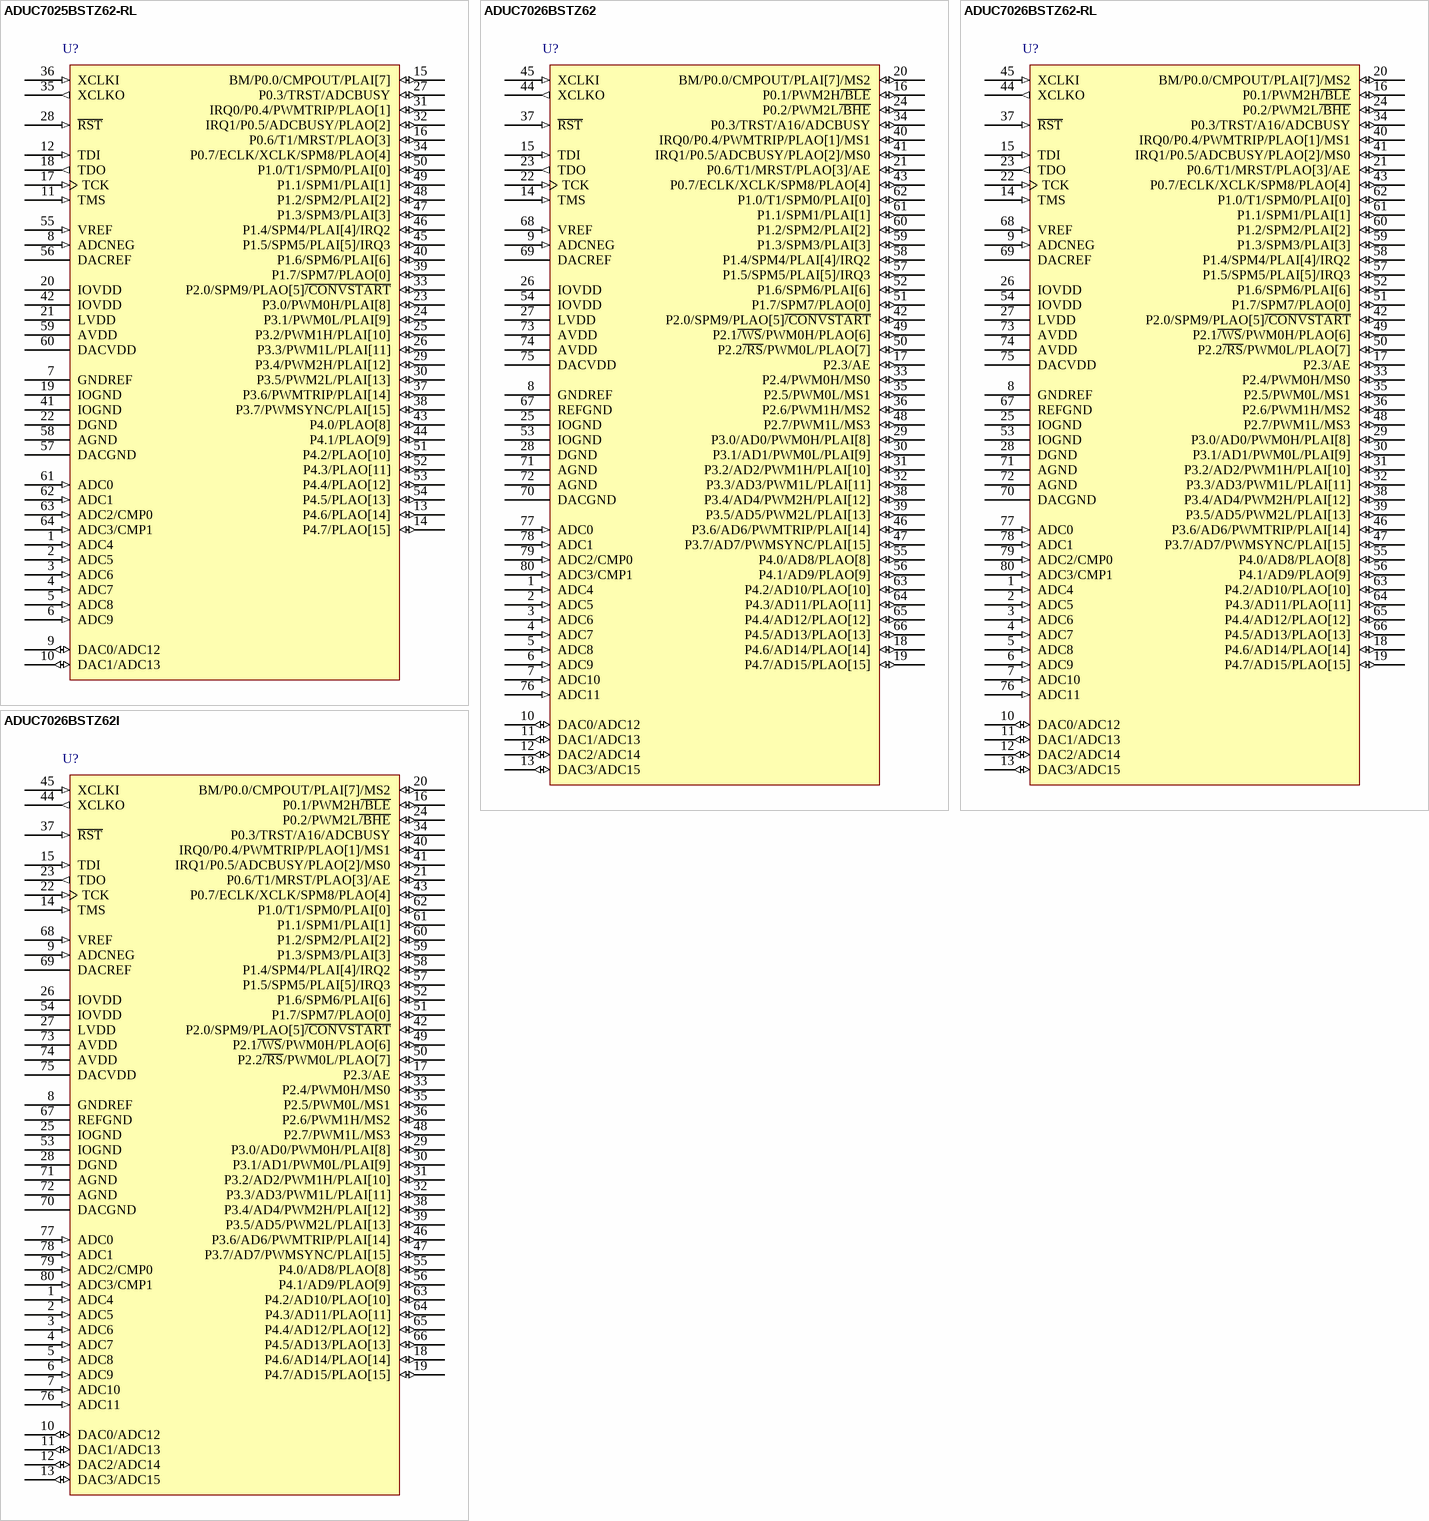
[diagram p5: symbols ADUC7025BSTZ62-RL to ADUC7026BSTZ62I]

## ADUC7025BSTZ62-RL
designator U?
12-Bit Data Acquisition SOC, 40 MIPS ARM7 Flash MCU, 12 Channel ADC, 30 I/Os, 64-Pin LQFP, Pb-Free; Published: 30-Mar-2007; DatasheetVersion: RevA, Jan-2006; PackageVersion: May-2006; PackageReference: ST-64-2; Publisher: Altium Limited; PackageDescription: 64-Pin Low Profile Quad Flat Pack [LQFP]; Code_JEDEC: MS-026-BCD; ComponentLink1Description: Manufacturer Link; ComponentLink1URL: http://www.analog.com/en/prod/0,,762_0_ADUC7025%2C00.html; ComponentLink2Description: Datasheet; ComponentLink2URL: http://www.analog.com/UploadedFiles/Data_Sheets/ADUC7019_7020_7021_7022_7024_7025_7026_7027.pdf; ComponentLink3Description: Packaging Specification; ComponentLink3URL: http://www.analog.com/UploadedFiles/Packages/120493418ST_64_2.pdf
footprint ST-64-2_N (Thin QFP, 64-Leads, Body 10x10mm, Pitch 0.5mm, IPC Medium Density)
footprint ST-64-2_L (Thin QFP, 64-Leads, Body 10x10mm, Pitch 0.5mm, IPC High Density)
footprint ST-64-2_M (Thin QFP, 64-Leads, Body 10x10mm, Pitch 0.5mm, IPC Low Density)
3D model ADUC7025-ST-64-2 (64-Pin Low Profile Quad Flat Pack [LQFP])
pins: 1 ADC4 (in), 2 ADC5 (in), 3 ADC6 (in), 4 ADC7 (in), 5 ADC8 (in), 6 ADC9 (in), 7 GNDREF (power), 8 ADCNEG (in), 9 DAC0/ADC12 (io), 10 DAC1/ADC13 (io), 11 TMS (in), 12 TDI (in), 13 P4.6/PLAO[14] (io), 14 P4.7/PLAO[15] (io), 15 BM/P0.0/CMPOUT/PLAI[7] (io), 16 P0.6/T1/MRST/PLAO[3] (io), 17 TCK (in), 18 TDO (out), 19 IOGND (power), 20 IOVDD (power), 21 LVDD (power), 22 DGND (power), 23 P3.0/PWM0H/PLAI[8] (io), 24 P3.1/PWM0L/PLAI[9] (io), 25 P3.2/PWM1H/PLAI[10] (io), 26 P3.3/PWM1L/PLAI[11] (io), 27 P0.3/TRST/ADCBUSY (io), 28 ~{RST} (in), 29 P3.4/PWM2H/PLAI[12] (io), 30 P3.5/PWM2L/PLAI[13] (io), 31 IRQ0/P0.4/PWMTRIP/PLAO[1] (io), 32 IRQ1/P0.5/ADCBUSY/PLAO[2] (io), 33 P2.0/SPM9/PLAO[5]~{/CONVSTART} (io), 34 P0.7/ECLK/XCLK/SPM8/PLAO[4] (io), 35 XCLKO (out), 36 XCLKI (in), 37 P3.6/PWMTRIP/PLAI[14] (io), 38 P3.7/PWMSYNC/PLAI[15] (io), 39 P1.7/SPM7/PLAO[0] (io), 40 P1.6/SPM6/PLAI[6] (io), 41 IOGND (power), 42 IOVDD (power), 43 P4.0/PLAO[8] (io), 44 P4.1/PLAO[9] (io), 45 P1.5/SPM5/PLAI[5]/IRQ3 (io), 46 P1.4/SPM4/PLAI[4]/IRQ2 (io), 47 P1.3/SPM3/PLAI[3] (io), 48 P1.2/SPM2/PLAI[2] (io), 49 P1.1/SPM1/PLAI[1] (io), 50 P1.0/T1/SPM0/PLAI[0] (io), 51 P4.2/PLAO[10] (io), 52 P4.3/PLAO[11] (io), 53 P4.4/PLAO[12] (io), 54 P4.5/PLAO[13] (io), 55 VREF (in), 56 DACREF (power), 57 DACGND (power), 58 AGND (power), 59 AVDD (power), 60 DACVDD (power), 61 ADC0 (in), 62 ADC1 (in), 63 ADC2/CMP0 (in), 64 ADC3/CMP1 (in)

## ADUC7026BSTZ62
designator U?
12-Bit Data Acquisition SOC, 40 MIPS ARM7 Flash MCU, 12 Channel ADC, 4 Channel DAC, 40 I/Os, 80-Pin LQFP, Pb-Free; Published: 30-Mar-2007; DatasheetVersion: RevA, Jan-2006; PackageVersion: Jan-2005; PackageReference: ST-80-1; Publisher: Altium Limited; PackageDescription: 80-Pin Low Profile Quad Flat Pack [LQFP]; Code_JEDEC: MS-026-BDD; ComponentLink1Description: Manufacturer Link; ComponentLink1URL: http://www.analog.com/en/prod/0,,762_0_ADUC7026%2C00.html; ComponentLink2Description: Datasheet; ComponentLink2URL: http://www.analog.com/UploadedFiles/Data_Sheets/ADUC7019_7020_7021_7022_7024_7025_7026_7027.pdf; ComponentLink3Description: Packaging Specification; ComponentLink3URL: http://www.analog.com/UploadedFiles/Packages/37164565846937ST_80_1.pdf
footprint ST-80-1_N (Thin QFP, 80-Leads, Body 12x12mm, Pitch 0.5mm, IPC Medium Density)
footprint ST-80-1_L (Thin QFP, 80-Leads, Body 12x12mm, Pitch 0.5mm, IPC High Density)
footprint ST-80-1_M (Thin QFP, 80-Leads, Body 12x12mm, Pitch 0.5mm, IPC Low Density)
3D model ADUC7026-ST-80-1 (80-Pin Low Profile Quad Flat Pack [LQFP])
pins: 1 ADC4 (in), 2 ADC5 (in), 3 ADC6 (in), 4 ADC7 (in), 5 ADC8 (in), 6 ADC9 (in), 7 ADC10 (in), 8 GNDREF (power), 9 ADCNEG (in), 10 DAC0/ADC12 (io), 11 DAC1/ADC13 (io), 12 DAC2/ADC14 (io), 13 DAC3/ADC15 (io), 14 TMS (in), 15 TDI (in), 16 P0.1/PWM2H~{/BLE} (io), 17 P2.3/AE (io), 18 P4.6/AD14/PLAO[14] (io), 19 P4.7/AD15/PLAO[15] (io), 20 BM/P0.0/CMPOUT/PLAI[7]/MS2 (io), 21 P0.6/T1/MRST/PLAO[3]/AE (io), 22 TCK (in), 23 TDO (out), 24 P0.2/PWM2L~{/BHE} (io), 25 IOGND (power), 26 IOVDD (power), 27 LVDD (power), 28 DGND (power), 29 P3.0/AD0/PWM0H/PLAI[8] (io), 30 P3.1/AD1/PWM0L/PLAI[9] (io), 31 P3.2/AD2/PWM1H/PLAI[10] (io), 32 P3.3/AD3/PWM1L/PLAI[11] (io), 33 P2.4/PWM0H/MS0 (io), 34 P0.3/TRST/A16/ADCBUSY (io), 35 P2.5/PWM0L/MS1 (io), 36 P2.6/PWM1H/MS2 (io), 37 ~{RST} (in), 38 P3.4/AD4/PWM2H/PLAI[12] (io), 39 P3.5/AD5/PWM2L/PLAI[13] (io), 40 IRQ0/P0.4/PWMTRIP/PLAO[1]/MS1 (io), 41 IRQ1/P0.5/ADCBUSY/PLAO[2]/MS0 (io), 42 P2.0/SPM9/PLAO[5]~{/CONVSTART} (io), 43 P0.7/ECLK/XCLK/SPM8/PLAO[4] (io), 44 XCLKO (out), 45 XCLKI (in), 46 P3.6/AD6/PWMTRIP/PLAI[14] (io), 47 P3.7/AD7/PWMSYNC/PLAI[15] (io), 48 P2.7/PWM1L/MS3 (io), 49 P2.1~{/WS}/PWM0H/PLAO[6] (io), 50 P2.2~{/RS}/PWM0L/PLAO[7] (io), 51 P1.7/SPM7/PLAO[0] (io), 52 P1.6/SPM6/PLAI[6] (io), 53 IOGND (power), 54 IOVDD (power), 55 P4.0/AD8/PLAO[8] (io), 56 P4.1/AD9/PLAO[9] (io), 57 P1.5/SPM5/PLAI[5]/IRQ3 (io), 58 P1.4/SPM4/PLAI[4]/IRQ2 (io), 59 P1.3/SPM3/PLAI[3] (io), 60 P1.2/SPM2/PLAI[2] (io), 61 P1.1/SPM1/PLAI[1] (io), 62 P1.0/T1/SPM0/PLAI[0] (io), 63 P4.2/AD10/PLAO[10] (io), 64 P4.3/AD11/PLAO[11] (io), 65 P4.4/AD12/PLAO[12] (io), 66 P4.5/AD13/PLAO[13] (io), 67 REFGND (power), 68 VREF (in), 69 DACREF (power), 70 DACGND (power), 71 AGND (power), 72 AGND (power), 73 AVDD (power), 74 AVDD (power), 75 DACVDD (power), 76 ADC11 (in), 77 ADC0 (in), 78 ADC1 (in), 79 ADC2/CMP0 (in), 80 ADC3/CMP1 (in)

## ADUC7026BSTZ62-RL
designator U?
12-Bit Data Acquisition SOC, 40 MIPS ARM7 Flash MCU, 12 Channel ADC, 4 Channel DAC, 40 I/Os, 80-Pin LQFP, Pb-Free; Published: 30-Mar-2007; DatasheetVersion: RevA, Jan-2006; PackageVersion: Jan-2005; PackageReference: ST-80-1; Publisher: Altium Limited; PackageDescription: 80-Pin Low Profile Quad Flat Pack [LQFP]; Code_JEDEC: MS-026-BDD; ComponentLink1Description: Manufacturer Link; ComponentLink1URL: http://www.analog.com/en/prod/0,,762_0_ADUC7026%2C00.html; ComponentLink2Description: Datasheet; ComponentLink2URL: http://www.analog.com/UploadedFiles/Data_Sheets/ADUC7019_7020_7021_7022_7024_7025_7026_7027.pdf; ComponentLink3Description: Packaging Specification; ComponentLink3URL: http://www.analog.com/UploadedFiles/Packages/37164565846937ST_80_1.pdf
footprint ST-80-1_N (Thin QFP, 80-Leads, Body 12x12mm, Pitch 0.5mm, IPC Medium Density)
footprint ST-80-1_L (Thin QFP, 80-Leads, Body 12x12mm, Pitch 0.5mm, IPC High Density)
footprint ST-80-1_M (Thin QFP, 80-Leads, Body 12x12mm, Pitch 0.5mm, IPC Low Density)
3D model ADUC7026-ST-80-1 (80-Pin Low Profile Quad Flat Pack [LQFP])
pins: 1 ADC4 (in), 2 ADC5 (in), 3 ADC6 (in), 4 ADC7 (in), 5 ADC8 (in), 6 ADC9 (in), 7 ADC10 (in), 8 GNDREF (power), 9 ADCNEG (in), 10 DAC0/ADC12 (io), 11 DAC1/ADC13 (io), 12 DAC2/ADC14 (io), 13 DAC3/ADC15 (io), 14 TMS (in), 15 TDI (in), 16 P0.1/PWM2H~{/BLE} (io), 17 P2.3/AE (io), 18 P4.6/AD14/PLAO[14] (io), 19 P4.7/AD15/PLAO[15] (io), 20 BM/P0.0/CMPOUT/PLAI[7]/MS2 (io), 21 P0.6/T1/MRST/PLAO[3]/AE (io), 22 TCK (in), 23 TDO (out), 24 P0.2/PWM2L~{/BHE} (io), 25 IOGND (power), 26 IOVDD (power), 27 LVDD (power), 28 DGND (power), 29 P3.0/AD0/PWM0H/PLAI[8] (io), 30 P3.1/AD1/PWM0L/PLAI[9] (io), 31 P3.2/AD2/PWM1H/PLAI[10] (io), 32 P3.3/AD3/PWM1L/PLAI[11] (io), 33 P2.4/PWM0H/MS0 (io), 34 P0.3/TRST/A16/ADCBUSY (io), 35 P2.5/PWM0L/MS1 (io), 36 P2.6/PWM1H/MS2 (io), 37 ~{RST} (in), 38 P3.4/AD4/PWM2H/PLAI[12] (io), 39 P3.5/AD5/PWM2L/PLAI[13] (io), 40 IRQ0/P0.4/PWMTRIP/PLAO[1]/MS1 (io), 41 IRQ1/P0.5/ADCBUSY/PLAO[2]/MS0 (io), 42 P2.0/SPM9/PLAO[5]~{/CONVSTART} (io), 43 P0.7/ECLK/XCLK/SPM8/PLAO[4] (io), 44 XCLKO (out), 45 XCLKI (in), 46 P3.6/AD6/PWMTRIP/PLAI[14] (io), 47 P3.7/AD7/PWMSYNC/PLAI[15] (io), 48 P2.7/PWM1L/MS3 (io), 49 P2.1~{/WS}/PWM0H/PLAO[6] (io), 50 P2.2~{/RS}/PWM0L/PLAO[7] (io), 51 P1.7/SPM7/PLAO[0] (io), 52 P1.6/SPM6/PLAI[6] (io), 53 IOGND (power), 54 IOVDD (power), 55 P4.0/AD8/PLAO[8] (io), 56 P4.1/AD9/PLAO[9] (io), 57 P1.5/SPM5/PLAI[5]/IRQ3 (io), 58 P1.4/SPM4/PLAI[4]/IRQ2 (io), 59 P1.3/SPM3/PLAI[3] (io), 60 P1.2/SPM2/PLAI[2] (io), 61 P1.1/SPM1/PLAI[1] (io), 62 P1.0/T1/SPM0/PLAI[0] (io), 63 P4.2/AD10/PLAO[10] (io), 64 P4.3/AD11/PLAO[11] (io), 65 P4.4/AD12/PLAO[12] (io), 66 P4.5/AD13/PLAO[13] (io), 67 REFGND (power), 68 VREF (in), 69 DACREF (power), 70 DACGND (power), 71 AGND (power), 72 AGND (power), 73 AVDD (power), 74 AVDD (power), 75 DACVDD (power), 76 ADC11 (in), 77 ADC0 (in), 78 ADC1 (in), 79 ADC2/CMP0 (in), 80 ADC3/CMP1 (in)

## ADUC7026BSTZ62I
designator U?
12-Bit Data Acquisition SOC, 40 MIPS ARM7 Flash MCU, 12 Channel ADC, 4 Channel DAC, 40 I/Os, 80-Pin LQFP, Pb-Free; Published: 30-Mar-2007; DatasheetVersion: RevA, Jan-2006; PackageVersion: Jan-2005; PackageReference: ST-80-1; Publisher: Altium Limited; PackageDescription: 80-Pin Low Profile Quad Flat Pack [LQFP]; Code_JEDEC: MS-026-BDD; ComponentLink1Description: Manufacturer Link; ComponentLink1URL: http://www.analog.com/en/prod/0,,762_0_ADUC7026%2C00.html; ComponentLink2Description: Datasheet; ComponentLink2URL: http://www.analog.com/UploadedFiles/Data_Sheets/ADUC7019_7020_7021_7022_7024_7025_7026_7027.pdf; ComponentLink3Description: Packaging Specification; ComponentLink3URL: http://www.analog.com/UploadedFiles/Packages/37164565846937ST_80_1.pdf
footprint ST-80-1_N (Thin QFP, 80-Leads, Body 12x12mm, Pitch 0.5mm, IPC Medium Density)
footprint ST-80-1_L (Thin QFP, 80-Leads, Body 12x12mm, Pitch 0.5mm, IPC High Density)
footprint ST-80-1_M (Thin QFP, 80-Leads, Body 12x12mm, Pitch 0.5mm, IPC Low Density)
3D model ADUC7026-ST-80-1 (80-Pin Low Profile Quad Flat Pack [LQFP])
pins: 1 ADC4 (in), 2 ADC5 (in), 3 ADC6 (in), 4 ADC7 (in), 5 ADC8 (in), 6 ADC9 (in), 7 ADC10 (in), 8 GNDREF (power), 9 ADCNEG (in), 10 DAC0/ADC12 (io), 11 DAC1/ADC13 (io), 12 DAC2/ADC14 (io), 13 DAC3/ADC15 (io), 14 TMS (in), 15 TDI (in), 16 P0.1/PWM2H~{/BLE} (io), 17 P2.3/AE (io), 18 P4.6/AD14/PLAO[14] (io), 19 P4.7/AD15/PLAO[15] (io), 20 BM/P0.0/CMPOUT/PLAI[7]/MS2 (io), 21 P0.6/T1/MRST/PLAO[3]/AE (io), 22 TCK (in), 23 TDO (out), 24 P0.2/PWM2L~{/BHE} (io), 25 IOGND (power), 26 IOVDD (power), 27 LVDD (power), 28 DGND (power), 29 P3.0/AD0/PWM0H/PLAI[8] (io), 30 P3.1/AD1/PWM0L/PLAI[9] (io), 31 P3.2/AD2/PWM1H/PLAI[10] (io), 32 P3.3/AD3/PWM1L/PLAI[11] (io), 33 P2.4/PWM0H/MS0 (io), 34 P0.3/TRST/A16/ADCBUSY (io), 35 P2.5/PWM0L/MS1 (io), 36 P2.6/PWM1H/MS2 (io), 37 ~{RST} (in), 38 P3.4/AD4/PWM2H/PLAI[12] (io), 39 P3.5/AD5/PWM2L/PLAI[13] (io), 40 IRQ0/P0.4/PWMTRIP/PLAO[1]/MS1 (io), 41 IRQ1/P0.5/ADCBUSY/PLAO[2]/MS0 (io), 42 P2.0/SPM9/PLAO[5]~{/CONVSTART} (io), 43 P0.7/ECLK/XCLK/SPM8/PLAO[4] (io), 44 XCLKO (out), 45 XCLKI (in), 46 P3.6/AD6/PWMTRIP/PLAI[14] (io), 47 P3.7/AD7/PWMSYNC/PLAI[15] (io), 48 P2.7/PWM1L/MS3 (io), 49 P2.1~{/WS}/PWM0H/PLAO[6] (io), 50 P2.2~{/RS}/PWM0L/PLAO[7] (io), 51 P1.7/SPM7/PLAO[0] (io), 52 P1.6/SPM6/PLAI[6] (io), 53 IOGND (power), 54 IOVDD (power), 55 P4.0/AD8/PLAO[8] (io), 56 P4.1/AD9/PLAO[9] (io), 57 P1.5/SPM5/PLAI[5]/IRQ3 (io), 58 P1.4/SPM4/PLAI[4]/IRQ2 (io), 59 P1.3/SPM3/PLAI[3] (io), 60 P1.2/SPM2/PLAI[2] (io), 61 P1.1/SPM1/PLAI[1] (io), 62 P1.0/T1/SPM0/PLAI[0] (io), 63 P4.2/AD10/PLAO[10] (io), 64 P4.3/AD11/PLAO[11] (io), 65 P4.4/AD12/PLAO[12] (io), 66 P4.5/AD13/PLAO[13] (io), 67 REFGND (power), 68 VREF (in), 69 DACREF (power), 70 DACGND (power), 71 AGND (power), 72 AGND (power), 73 AVDD (power), 74 AVDD (power), 75 DACVDD (power), 76 ADC11 (in), 77 ADC0 (in), 78 ADC1 (in), 79 ADC2/CMP0 (in), 80 ADC3/CMP1 (in)

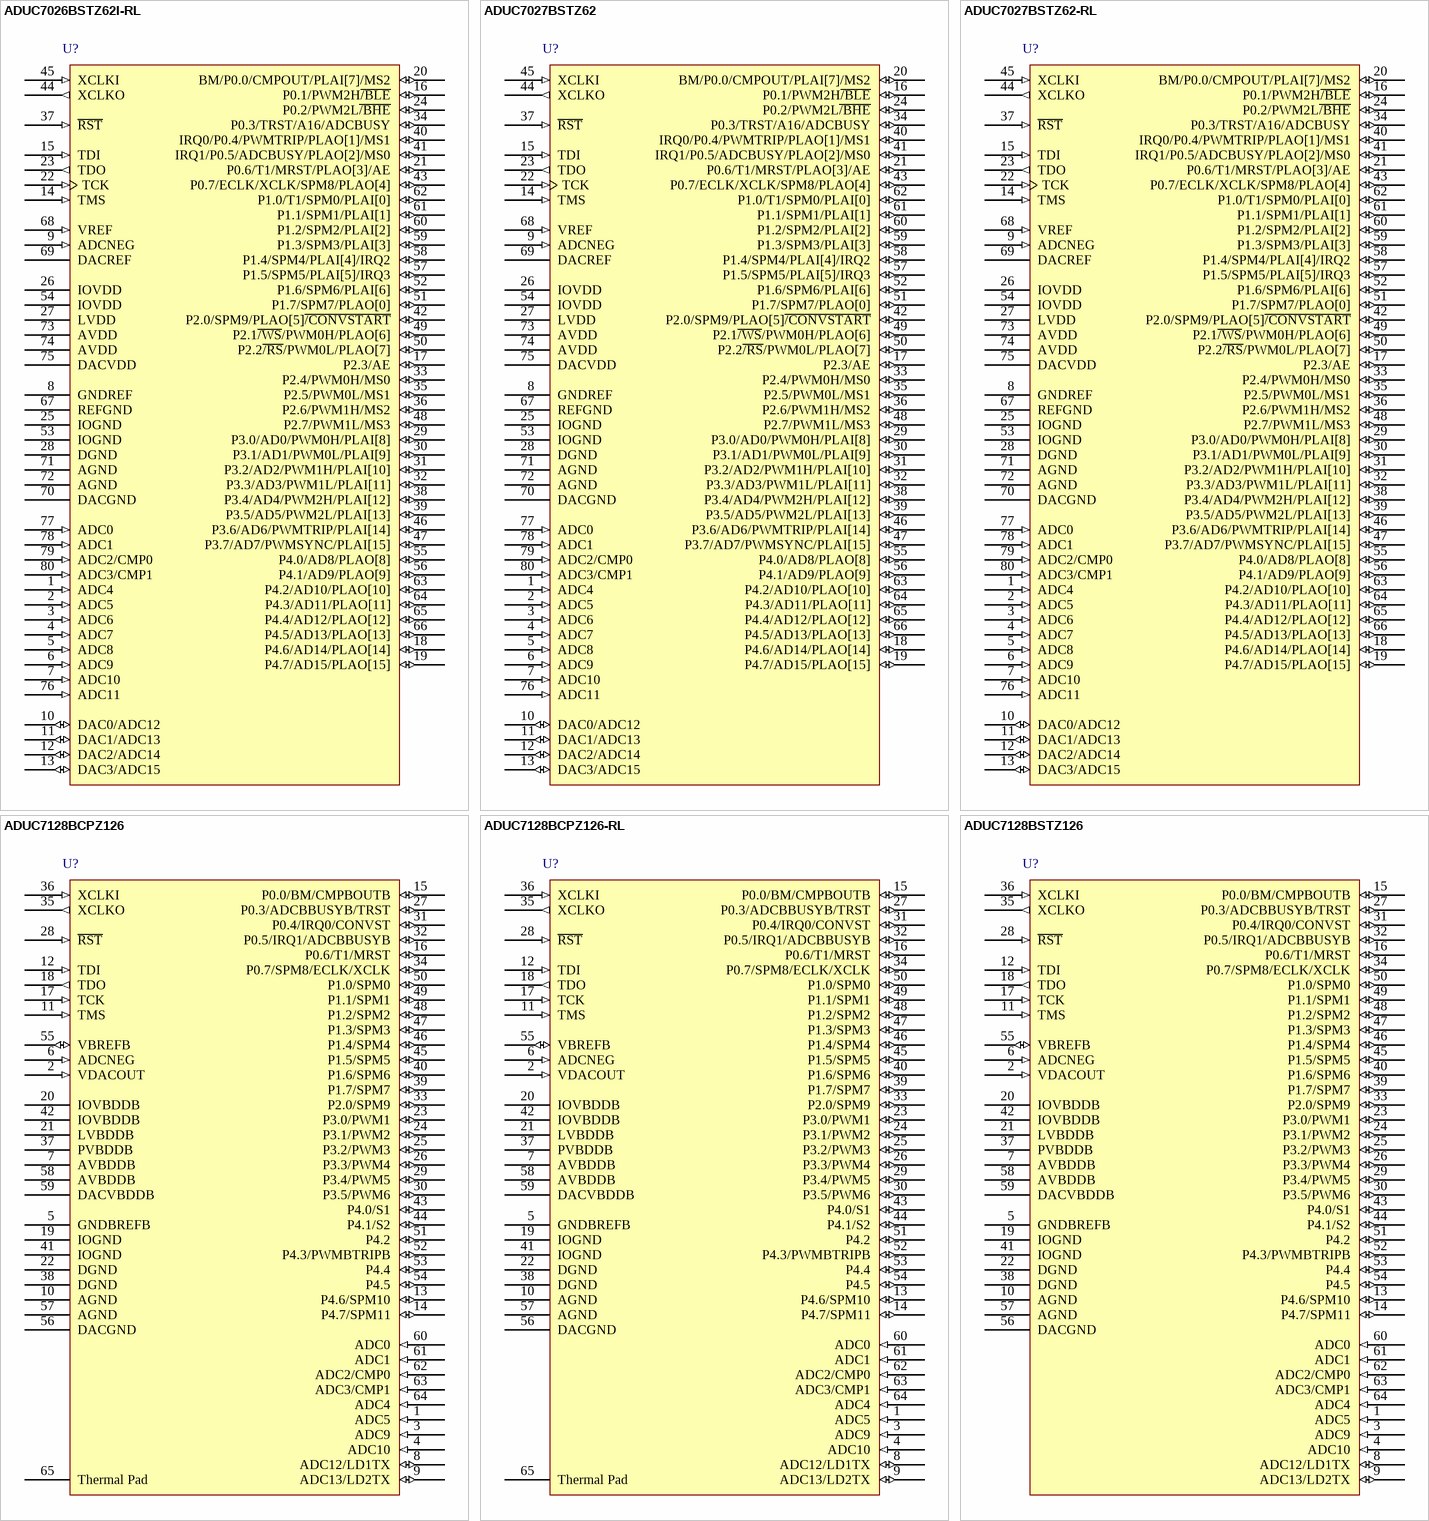
[diagram p6: symbols ADUC7026BSTZ62I-RL to ADUC7128BSTZ126]

## ADUC7026BSTZ62I-RL
designator U?
12-Bit Data Acquisition SOC, 40 MIPS ARM7 Flash MCU, 12 Channel ADC, 4 Channel DAC, 40 I/Os, 80-Pin LQFP, Pb-Free; Published: 30-Mar-2007; DatasheetVersion: RevA, Jan-2006; PackageVersion: Jan-2005; PackageReference: ST-80-1; Publisher: Altium Limited; PackageDescription: 80-Pin Low Profile Quad Flat Pack [LQFP]; Code_JEDEC: MS-026-BDD; ComponentLink1Description: Manufacturer Link; ComponentLink1URL: http://www.analog.com/en/prod/0,,762_0_ADUC7026%2C00.html; ComponentLink2Description: Datasheet; ComponentLink2URL: http://www.analog.com/UploadedFiles/Data_Sheets/ADUC7019_7020_7021_7022_7024_7025_7026_7027.pdf; ComponentLink3Description: Packaging Specification; ComponentLink3URL: http://www.analog.com/UploadedFiles/Packages/37164565846937ST_80_1.pdf
footprint ST-80-1_N (Thin QFP, 80-Leads, Body 12x12mm, Pitch 0.5mm, IPC Medium Density)
footprint ST-80-1_L (Thin QFP, 80-Leads, Body 12x12mm, Pitch 0.5mm, IPC High Density)
footprint ST-80-1_M (Thin QFP, 80-Leads, Body 12x12mm, Pitch 0.5mm, IPC Low Density)
3D model ADUC7026-ST-80-1 (80-Pin Low Profile Quad Flat Pack [LQFP])
pins: 1 ADC4 (in), 2 ADC5 (in), 3 ADC6 (in), 4 ADC7 (in), 5 ADC8 (in), 6 ADC9 (in), 7 ADC10 (in), 8 GNDREF (power), 9 ADCNEG (in), 10 DAC0/ADC12 (io), 11 DAC1/ADC13 (io), 12 DAC2/ADC14 (io), 13 DAC3/ADC15 (io), 14 TMS (in), 15 TDI (in), 16 P0.1/PWM2H~{/BLE} (io), 17 P2.3/AE (io), 18 P4.6/AD14/PLAO[14] (io), 19 P4.7/AD15/PLAO[15] (io), 20 BM/P0.0/CMPOUT/PLAI[7]/MS2 (io), 21 P0.6/T1/MRST/PLAO[3]/AE (io), 22 TCK (in), 23 TDO (out), 24 P0.2/PWM2L~{/BHE} (io), 25 IOGND (power), 26 IOVDD (power), 27 LVDD (power), 28 DGND (power), 29 P3.0/AD0/PWM0H/PLAI[8] (io), 30 P3.1/AD1/PWM0L/PLAI[9] (io), 31 P3.2/AD2/PWM1H/PLAI[10] (io), 32 P3.3/AD3/PWM1L/PLAI[11] (io), 33 P2.4/PWM0H/MS0 (io), 34 P0.3/TRST/A16/ADCBUSY (io), 35 P2.5/PWM0L/MS1 (io), 36 P2.6/PWM1H/MS2 (io), 37 ~{RST} (in), 38 P3.4/AD4/PWM2H/PLAI[12] (io), 39 P3.5/AD5/PWM2L/PLAI[13] (io), 40 IRQ0/P0.4/PWMTRIP/PLAO[1]/MS1 (io), 41 IRQ1/P0.5/ADCBUSY/PLAO[2]/MS0 (io), 42 P2.0/SPM9/PLAO[5]~{/CONVSTART} (io), 43 P0.7/ECLK/XCLK/SPM8/PLAO[4] (io), 44 XCLKO (out), 45 XCLKI (in), 46 P3.6/AD6/PWMTRIP/PLAI[14] (io), 47 P3.7/AD7/PWMSYNC/PLAI[15] (io), 48 P2.7/PWM1L/MS3 (io), 49 P2.1~{/WS}/PWM0H/PLAO[6] (io), 50 P2.2~{/RS}/PWM0L/PLAO[7] (io), 51 P1.7/SPM7/PLAO[0] (io), 52 P1.6/SPM6/PLAI[6] (io), 53 IOGND (power), 54 IOVDD (power), 55 P4.0/AD8/PLAO[8] (io), 56 P4.1/AD9/PLAO[9] (io), 57 P1.5/SPM5/PLAI[5]/IRQ3 (io), 58 P1.4/SPM4/PLAI[4]/IRQ2 (io), 59 P1.3/SPM3/PLAI[3] (io), 60 P1.2/SPM2/PLAI[2] (io), 61 P1.1/SPM1/PLAI[1] (io), 62 P1.0/T1/SPM0/PLAI[0] (io), 63 P4.2/AD10/PLAO[10] (io), 64 P4.3/AD11/PLAO[11] (io), 65 P4.4/AD12/PLAO[12] (io), 66 P4.5/AD13/PLAO[13] (io), 67 REFGND (power), 68 VREF (in), 69 DACREF (power), 70 DACGND (power), 71 AGND (power), 72 AGND (power), 73 AVDD (power), 74 AVDD (power), 75 DACVDD (power), 76 ADC11 (in), 77 ADC0 (in), 78 ADC1 (in), 79 ADC2/CMP0 (in), 80 ADC3/CMP1 (in)

## ADUC7027BSTZ62
designator U?
12-Bit Data Acquisition SOC, 40 MIPS ARM7 Flash MCU, 16 Channel ADC, 40 I/Os, 80-Pin LQFP, Pb-Free; Published: 30-Mar-2007; DatasheetVersion: RevA, Jan-2006; PackageVersion: Jan-2005; PackageReference: ST-80-1; Publisher: Altium Limited; PackageDescription: 80-Pin Low Profile Quad Flat Pack [LQFP]; Code_JEDEC: MS-026-BDD; ComponentLink1Description: Manufacturer Link; ComponentLink1URL: http://www.analog.com/en/prod/0,,762_0_ADUC7027%2C00.html; ComponentLink2Description: Datasheet; ComponentLink2URL: http://www.analog.com/UploadedFiles/Data_Sheets/ADUC7019_7020_7021_7022_7024_7025_7026_7027.pdf; ComponentLink3Description: Packaging Specification; ComponentLink3URL: http://www.analog.com/UploadedFiles/Packages/37164565846937ST_80_1.pdf
footprint ST-80-1_N (Thin QFP, 80-Leads, Body 12x12mm, Pitch 0.5mm, IPC Medium Density)
footprint ST-80-1_L (Thin QFP, 80-Leads, Body 12x12mm, Pitch 0.5mm, IPC High Density)
footprint ST-80-1_M (Thin QFP, 80-Leads, Body 12x12mm, Pitch 0.5mm, IPC Low Density)
3D model ADUC7027-ST-80-1 (80-Pin Low Profile Quad Flat Pack [LQFP])
pins: 1 ADC4 (in), 2 ADC5 (in), 3 ADC6 (in), 4 ADC7 (in), 5 ADC8 (in), 6 ADC9 (in), 7 ADC10 (in), 8 GNDREF (power), 9 ADCNEG (in), 10 DAC0/ADC12 (io), 11 DAC1/ADC13 (io), 12 DAC2/ADC14 (io), 13 DAC3/ADC15 (io), 14 TMS (in), 15 TDI (in), 16 P0.1/PWM2H~{/BLE} (io), 17 P2.3/AE (io), 18 P4.6/AD14/PLAO[14] (io), 19 P4.7/AD15/PLAO[15] (io), 20 BM/P0.0/CMPOUT/PLAI[7]/MS2 (io), 21 P0.6/T1/MRST/PLAO[3]/AE (io), 22 TCK (in), 23 TDO (out), 24 P0.2/PWM2L~{/BHE} (io), 25 IOGND (power), 26 IOVDD (power), 27 LVDD (power), 28 DGND (power), 29 P3.0/AD0/PWM0H/PLAI[8] (io), 30 P3.1/AD1/PWM0L/PLAI[9] (io), 31 P3.2/AD2/PWM1H/PLAI[10] (io), 32 P3.3/AD3/PWM1L/PLAI[11] (io), 33 P2.4/PWM0H/MS0 (io), 34 P0.3/TRST/A16/ADCBUSY (io), 35 P2.5/PWM0L/MS1 (io), 36 P2.6/PWM1H/MS2 (io), 37 ~{RST} (in), 38 P3.4/AD4/PWM2H/PLAI[12] (io), 39 P3.5/AD5/PWM2L/PLAI[13] (io), 40 IRQ0/P0.4/PWMTRIP/PLAO[1]/MS1 (io), 41 IRQ1/P0.5/ADCBUSY/PLAO[2]/MS0 (io), 42 P2.0/SPM9/PLAO[5]~{/CONVSTART} (io), 43 P0.7/ECLK/XCLK/SPM8/PLAO[4] (io), 44 XCLKO (out), 45 XCLKI (in), 46 P3.6/AD6/PWMTRIP/PLAI[14] (io), 47 P3.7/AD7/PWMSYNC/PLAI[15] (io), 48 P2.7/PWM1L/MS3 (io), 49 P2.1~{/WS}/PWM0H/PLAO[6] (io), 50 P2.2~{/RS}/PWM0L/PLAO[7] (io), 51 P1.7/SPM7/PLAO[0] (io), 52 P1.6/SPM6/PLAI[6] (io), 53 IOGND (power), 54 IOVDD (power), 55 P4.0/AD8/PLAO[8] (io), 56 P4.1/AD9/PLAO[9] (io), 57 P1.5/SPM5/PLAI[5]/IRQ3 (io), 58 P1.4/SPM4/PLAI[4]/IRQ2 (io), 59 P1.3/SPM3/PLAI[3] (io), 60 P1.2/SPM2/PLAI[2] (io), 61 P1.1/SPM1/PLAI[1] (io), 62 P1.0/T1/SPM0/PLAI[0] (io), 63 P4.2/AD10/PLAO[10] (io), 64 P4.3/AD11/PLAO[11] (io), 65 P4.4/AD12/PLAO[12] (io), 66 P4.5/AD13/PLAO[13] (io), 67 REFGND (power), 68 VREF (in), 69 DACREF (power), 70 DACGND (power), 71 AGND (power), 72 AGND (power), 73 AVDD (power), 74 AVDD (power), 75 DACVDD (power), 76 ADC11 (in), 77 ADC0 (in), 78 ADC1 (in), 79 ADC2/CMP0 (in), 80 ADC3/CMP1 (in)

## ADUC7027BSTZ62-RL
designator U?
12-Bit Data Acquisition SOC, 40 MIPS ARM7 Flash MCU, 16 Channel ADC, 40 I/Os, 80-Pin LQFP, Pb-Free; Published: 30-Mar-2007; DatasheetVersion: RevA, Jan-2006; PackageVersion: Jan-2005; PackageReference: ST-80-1; Publisher: Altium Limited; PackageDescription: 80-Pin Low Profile Quad Flat Pack [LQFP]; Code_JEDEC: MS-026-BDD; ComponentLink1Description: Manufacturer Link; ComponentLink1URL: http://www.analog.com/en/prod/0,,762_0_ADUC7027%2C00.html; ComponentLink2Description: Datasheet; ComponentLink2URL: http://www.analog.com/UploadedFiles/Data_Sheets/ADUC7019_7020_7021_7022_7024_7025_7026_7027.pdf; ComponentLink3Description: Packaging Specification; ComponentLink3URL: http://www.analog.com/UploadedFiles/Packages/37164565846937ST_80_1.pdf
footprint ST-80-1_N (Thin QFP, 80-Leads, Body 12x12mm, Pitch 0.5mm, IPC Medium Density)
footprint ST-80-1_L (Thin QFP, 80-Leads, Body 12x12mm, Pitch 0.5mm, IPC High Density)
footprint ST-80-1_M (Thin QFP, 80-Leads, Body 12x12mm, Pitch 0.5mm, IPC Low Density)
3D model ADUC7027-ST-80-1 (80-Pin Low Profile Quad Flat Pack [LQFP])
pins: 1 ADC4 (in), 2 ADC5 (in), 3 ADC6 (in), 4 ADC7 (in), 5 ADC8 (in), 6 ADC9 (in), 7 ADC10 (in), 8 GNDREF (power), 9 ADCNEG (in), 10 DAC0/ADC12 (io), 11 DAC1/ADC13 (io), 12 DAC2/ADC14 (io), 13 DAC3/ADC15 (io), 14 TMS (in), 15 TDI (in), 16 P0.1/PWM2H~{/BLE} (io), 17 P2.3/AE (io), 18 P4.6/AD14/PLAO[14] (io), 19 P4.7/AD15/PLAO[15] (io), 20 BM/P0.0/CMPOUT/PLAI[7]/MS2 (io), 21 P0.6/T1/MRST/PLAO[3]/AE (io), 22 TCK (in), 23 TDO (out), 24 P0.2/PWM2L~{/BHE} (io), 25 IOGND (power), 26 IOVDD (power), 27 LVDD (power), 28 DGND (power), 29 P3.0/AD0/PWM0H/PLAI[8] (io), 30 P3.1/AD1/PWM0L/PLAI[9] (io), 31 P3.2/AD2/PWM1H/PLAI[10] (io), 32 P3.3/AD3/PWM1L/PLAI[11] (io), 33 P2.4/PWM0H/MS0 (io), 34 P0.3/TRST/A16/ADCBUSY (io), 35 P2.5/PWM0L/MS1 (io), 36 P2.6/PWM1H/MS2 (io), 37 ~{RST} (in), 38 P3.4/AD4/PWM2H/PLAI[12] (io), 39 P3.5/AD5/PWM2L/PLAI[13] (io), 40 IRQ0/P0.4/PWMTRIP/PLAO[1]/MS1 (io), 41 IRQ1/P0.5/ADCBUSY/PLAO[2]/MS0 (io), 42 P2.0/SPM9/PLAO[5]~{/CONVSTART} (io), 43 P0.7/ECLK/XCLK/SPM8/PLAO[4] (io), 44 XCLKO (out), 45 XCLKI (in), 46 P3.6/AD6/PWMTRIP/PLAI[14] (io), 47 P3.7/AD7/PWMSYNC/PLAI[15] (io), 48 P2.7/PWM1L/MS3 (io), 49 P2.1~{/WS}/PWM0H/PLAO[6] (io), 50 P2.2~{/RS}/PWM0L/PLAO[7] (io), 51 P1.7/SPM7/PLAO[0] (io), 52 P1.6/SPM6/PLAI[6] (io), 53 IOGND (power), 54 IOVDD (power), 55 P4.0/AD8/PLAO[8] (io), 56 P4.1/AD9/PLAO[9] (io), 57 P1.5/SPM5/PLAI[5]/IRQ3 (io), 58 P1.4/SPM4/PLAI[4]/IRQ2 (io), 59 P1.3/SPM3/PLAI[3] (io), 60 P1.2/SPM2/PLAI[2] (io), 61 P1.1/SPM1/PLAI[1] (io), 62 P1.0/T1/SPM0/PLAI[0] (io), 63 P4.2/AD10/PLAO[10] (io), 64 P4.3/AD11/PLAO[11] (io), 65 P4.4/AD12/PLAO[12] (io), 66 P4.5/AD13/PLAO[13] (io), 67 REFGND (power), 68 VREF (in), 69 DACREF (power), 70 DACGND (power), 71 AGND (power), 72 AGND (power), 73 AVDD (power), 74 AVDD (power), 75 DACVDD (power), 76 ADC11 (in), 77 ADC0 (in), 78 ADC1 (in), 79 ADC2/CMP0 (in), 80 ADC3/CMP1 (in)